# Altium integrated library AD DSP 32-Bit.IntLib: 40 symbols (part 4 of 6)
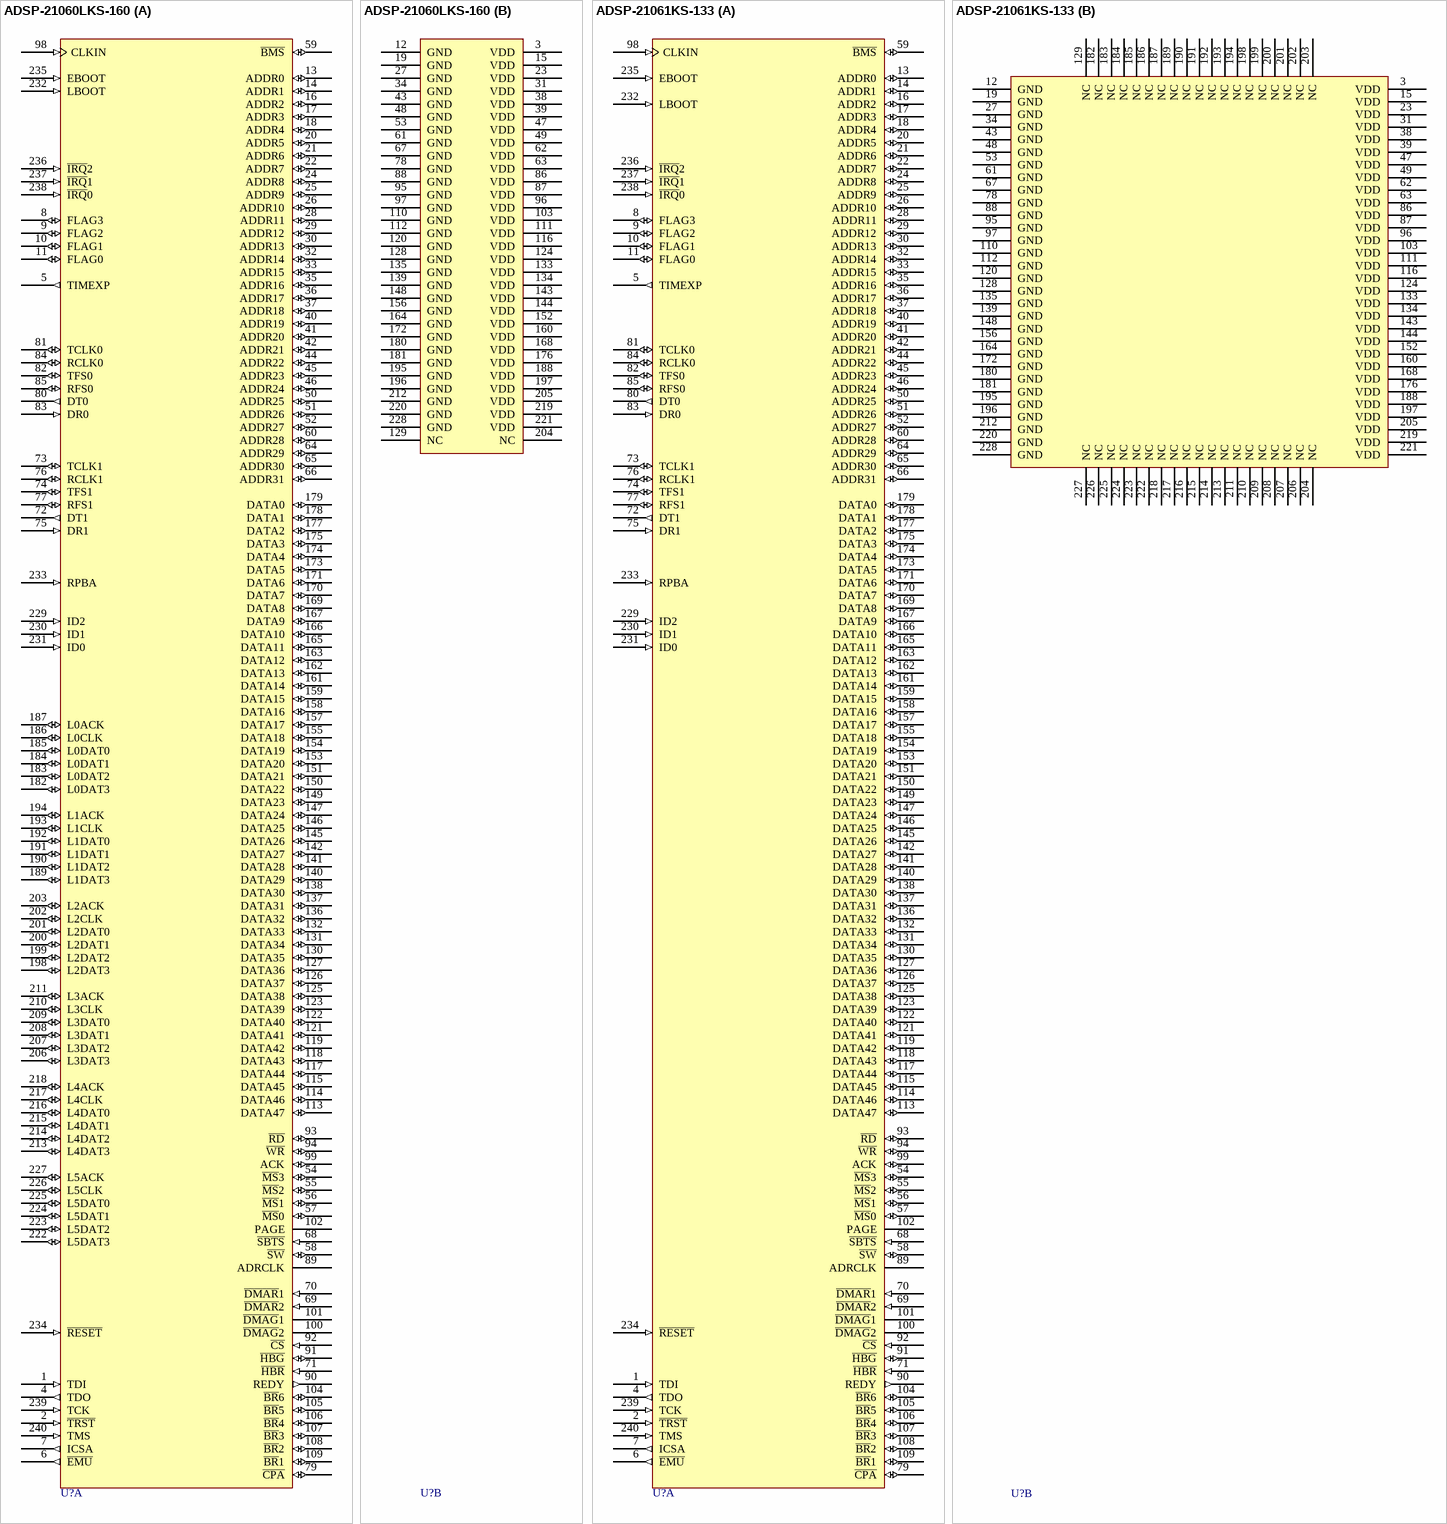
[diagram p45: symbols ADSP-21060LKS-160 to ADSP-21061KS-133]

## ADSP-21060LKS-160
designator U?
SHARC, 120 MFLOPS, 3.3V, DSP Microcomputer Floating Point; Published: 24-Aug-2001; LatestRevisionDate: 13-Apr-2006; LatestRevisionNote: IPC-7351 Footprint Added.; DatasheetVersion: 2000; PackageVersion: 2000; PackageReference: MQFP240-3.3V; Publisher: Altium Limited; PackageDescription: 240-Pin Shrink Quad Flat Pack 0.5 mm Pitch; ComponentLink1Description: Manufacturer Link; ComponentLink1URL: http://www.analog.com/
footprint MQFP240-3.3V_N (Shrink QFP, 240-Leads, Body 32x32mm, Pitch 0.5mm, IPC Medium Density)
footprint MQFP240-3.3V_L (Shrink QFP, 240-Leads, Body 32x32mm, Pitch 0.5mm, IPC High Density)
footprint MQFP240-3.3V_M (Shrink QFP, 240-Leads, Body 32x32mm, Pitch 0.5mm, IPC Low Density)
3D model 21060L-MQFP240 (240-Pin Shrink Quad Flat Pack 0.5 mm Pitch)
part A pins: 1 TDI (in), 2 ~{TRST} (in), 4 TDO (out), 5 TIMEXP (out), 6 ~{EMU} (out), 7 ICSA (out), 8 FLAG3 (io), 9 FLAG2 (io), 10 FLAG1 (io), 11 FLAG0 (io), 13 ADDR0 (io), 14 ADDR1 (io), 16 ADDR2 (io), 17 ADDR3 (io), 18 ADDR4 (io), 20 ADDR5 (io), 21 ADDR6 (io), 22 ADDR7 (io), 24 ADDR8 (io), 25 ADDR9 (io), 26 ADDR10 (io), 28 ADDR11 (io), 29 ADDR12 (io), 30 ADDR13 (io), 32 ADDR14 (io), 33 ADDR15 (io), 35 ADDR16 (io), 36 ADDR17 (io), 37 ADDR18 (io), 40 ADDR19 (io), 41 ADDR20 (io), 42 ADDR21 (io), 44 ADDR22 (io), 45 ADDR23 (io), 46 ADDR24 (io), 50 ADDR25 (io), 51 ADDR26 (io), 52 ADDR27 (io), 54 ~{MS}3 (io), 55 ~{MS}2 (io), 56 ~{MS}1 (io), 57 ~{MS}0 (io), 58 ~{SW} (io), 59 ~{BMS} (io), 60 ADDR28 (io), 64 ADDR29 (io), 65 ADDR30 (io), 66 ADDR31 (io), 68 ~{SBTS} (in), 69 ~{DMAR}2 (in), 70 ~{DMAR}1 (in), 71 ~{HBR} (in), 72 DT1 (out), 73 TCLK1 (io), 74 TFS1 (io), 75 DR1 (in), 76 RCLK1 (io), 77 RFS1 (io), 79 ~{CPA} (io), 80 DT0 (out), 81 TCLK0 (io), 82 TFS0 (io), 83 DR0 (in), 84 RCLK0 (io), 85 RFS0 (io), 89 ADRCLK (hiz), 90 REDY (out), 91 ~{HBG} (io), 92 ~{CS} (in), 93 ~{RD} (io), 94 ~{WR} (io), 98 CLKIN (in), 99 ACK (io), 100 ~{DMAG}2 (hiz), 101 ~{DMAG}1 (hiz), 102 PAGE (hiz), 104 ~{BR}6 (io), 105 ~{BR}5 (io), 106 ~{BR}4 (io), 107 ~{BR}3 (io), 108 ~{BR}2 (io), 109 ~{BR}1 (io), 113 DATA47 (io), 114 DATA46 (io), 115 DATA45 (io), 117 DATA44 (io), 118 DATA43 (io), 119 DATA42 (io), 121 DATA41 (io), 122 DATA40 (io), 123 DATA39 (io), 125 DATA38 (io), 126 DATA37 (io), 127 DATA36 (io), 130 DATA35 (io), 131 DATA34 (io), 132 DATA33 (io), 136 DATA32 (io), 137 DATA31 (io), 138 DATA30 (io), 140 DATA29 (io), 141 DATA28 (io), 142 DATA27 (io), 145 DATA26 (io), 146 DATA25 (io), 147 DATA24 (io), 149 DATA23 (io), 150 DATA22 (io), 151 DATA21 (io), 153 DATA20 (io), 154 DATA19 (io), 155 DATA18 (io), 157 DATA17 (io), 158 DATA16 (io), 159 DATA15 (io), 161 DATA14 (io), 162 DATA13 (io), 163 DATA12 (io), 165 DATA11 (io), 166 DATA10 (io), 167 DATA9 (io), 169 DATA8 (io), 170 DATA7 (io), 171 DATA6 (io), 173 DATA5 (io), 174 DATA4 (io), 175 DATA3 (io), 177 DATA2 (io), 178 DATA1 (io), 179 DATA0 (io), 182 L0DAT3 (io), 183 L0DAT2 (io), 184 L0DAT1 (io), 185 L0DAT0 (io), 186 L0CLK (io), 187 L0ACK (io), 189 L1DAT3 (io), 190 L1DAT2 (io), 191 L1DAT1 (io), 192 L1DAT0 (io), 193 L1CLK (io), 194 L1ACK (io), 198 L2DAT3 (io), 199 L2DAT2 (io), 200 L2DAT1 (io), 201 L2DAT0 (io), 202 L2CLK (io), 203 L2ACK (io), 206 L3DAT3 (io), 207 L3DAT2 (io), 208 L3DAT1 (io), 209 L3DAT0 (io), 210 L3CLK (io), 211 L3ACK (io), 213 L4DAT3 (io), 214 L4DAT2 (io), 215 L4DAT1 (io), 216 L4DAT0 (io), 217 L4CLK (io), 218 L4ACK (io), 222 L5DAT3 (io), 223 L5DAT2 (io), 224 L5DAT1 (io), 225 L5DAT0 (io), 226 L5CLK (io), 227 L5ACK (io), 229 ID2 (in), 230 ID1 (in), 231 ID0 (in), 232 LBOOT (in), 233 RPBA (in), 234 ~{RESET} (in), 235 EBOOT (in), 236 ~{IRQ}2 (in), 237 ~{IRQ}1 (in), 238 ~{IRQ}0 (in), 239 TCK (in), 240 TMS (in)
part B pins: 3 VDD (power), 12 GND (power), 15 VDD (power), 19 GND (power), 23 VDD (power), 27 GND (power), 31 VDD (power), 34 GND (power), 38 VDD (power), 39 VDD (power), 43 GND (power), 47 VDD (power), 48 GND (power), 49 VDD (power), 53 GND (power), 61 GND (power), 62 VDD (power), 63 VDD (power), 67 GND (power), 78 GND (power), 86 VDD (power), 87 VDD (power), 88 GND (power), 95 GND (power), 96 VDD (power), 97 GND (power), 103 VDD (power), 110 GND (power), 111 VDD (power), 112 GND (power), 116 VDD (power), 120 GND (power), 124 VDD (power), 128 GND (power), 129 NC, 133 VDD (power), 134 VDD (power), 135 GND (power), 139 GND (power), 143 VDD (power), 144 VDD (power), 148 GND (power), 152 VDD (power), 156 GND (power), 160 VDD (power), 164 GND (power), 168 VDD (power), 172 GND (power), 176 VDD (power), 180 GND (power), 181 GND (power), 188 VDD (power), 195 GND (power), 196 GND (power), 197 VDD (power), 204 NC, 205 VDD (power), 212 GND (power), 219 VDD (power), 220 GND (power), 221 VDD (power), 228 GND (power)

## ADSP-21061KS-133
designator U?
SHARC, 33MHZ, 150 MFLOPS, 5V, Floating Point; PackageFeature: Thermally Enhanced MQFP includes heat slug on its top surface; Published: 24-Aug-2001; LatestRevisionDate: 13-Apr-2006; LatestRevisionNote: IPC-7351 Footprint Added.; DatasheetVersion: 2000; PackageVersion: 2000; PackageReference: MQFP240-5V; Publisher: Altium Limited; PackageDescription: 240-Pin Shrink Quad Flat Pack 0.5 mm Pitch; ComponentLink1Description: Manufacturer Link; ComponentLink1URL: http://www.analog.com/
footprint MQFP240-5V_N (Shrink QFP, 240-Leads, Body 32x32mm, Pitch 0.5mm, IPC Medium Density)
footprint MQFP240-5V_L (Shrink QFP, 240-Leads, Body 32x32mm, Pitch 0.5mm, IPC High Density)
footprint MQFP240-5V_M (Shrink QFP, 240-Leads, Body 32x32mm, Pitch 0.5mm, IPC Low Density)
3D model 21061-MQFP240 (240-Pin Shrink Quad Flat Pack 0.5 mm Pitch)
part A pins: 1 TDI (in), 2 ~{TRST} (in), 4 TDO (out), 5 TIMEXP (out), 6 ~{EMU} (out), 7 ICSA (out), 8 FLAG3 (io), 9 FLAG2 (io), 10 FLAG1 (io), 11 FLAG0 (io), 13 ADDR0 (io), 14 ADDR1 (io), 16 ADDR2 (io), 17 ADDR3 (io), 18 ADDR4 (io), 20 ADDR5 (io), 21 ADDR6 (io), 22 ADDR7 (io), 24 ADDR8 (io), 25 ADDR9 (io), 26 ADDR10 (io), 28 ADDR11 (io), 29 ADDR12 (io), 30 ADDR13 (io), 32 ADDR14 (io), 33 ADDR15 (io), 35 ADDR16 (io), 36 ADDR17 (io), 37 ADDR18 (io), 40 ADDR19 (io), 41 ADDR20 (io), 42 ADDR21 (io), 44 ADDR22 (io), 45 ADDR23 (io), 46 ADDR24 (io), 50 ADDR25 (io), 51 ADDR26 (io), 52 ADDR27 (io), 54 ~{MS}3 (io), 55 ~{MS}2 (io), 56 ~{MS}1 (io), 57 ~{MS}0 (io), 58 ~{SW} (io), 59 ~{BMS} (io), 60 ADDR28 (io), 64 ADDR29 (io), 65 ADDR30 (io), 66 ADDR31 (io), 68 ~{SBTS} (in), 69 ~{DMAR}2 (in), 70 ~{DMAR}1 (in), 71 ~{HBR} (in), 72 DT1 (out), 73 TCLK1 (io), 74 TFS1 (io), 75 DR1 (in), 76 RCLK1 (io), 77 RFS1 (io), 79 ~{CPA} (io), 80 DT0 (out), 81 TCLK0 (io), 82 TFS0 (io), 83 DR0 (in), 84 RCLK0 (io), 85 RFS0 (io), 89 ADRCLK (hiz), 90 REDY (out), 91 ~{HBG} (io), 92 ~{CS} (in), 93 ~{RD} (io), 94 ~{WR} (io), 98 CLKIN (in), 99 ACK (io), 100 ~{DMAG}2 (hiz), 101 ~{DMAG}1 (hiz), 102 PAGE (hiz), 104 ~{BR}6 (io), 105 ~{BR}5 (io), 106 ~{BR}4 (io), 107 ~{BR}3 (io), 108 ~{BR}2 (io), 109 ~{BR}1 (io), 113 DATA47 (io), 114 DATA46 (io), 115 DATA45 (io), 117 DATA44 (io), 118 DATA43 (io), 119 DATA42 (io), 121 DATA41 (io), 122 DATA40 (io), 123 DATA39 (io), 125 DATA38 (io), 126 DATA37 (io), 127 DATA36 (io), 130 DATA35 (io), 131 DATA34 (io), 132 DATA33 (io), 136 DATA32 (io), 137 DATA31 (io), 138 DATA30 (io), 140 DATA29 (io), 141 DATA28 (io), 142 DATA27 (io), 145 DATA26 (io), 146 DATA25 (io), 147 DATA24 (io), 149 DATA23 (io), 150 DATA22 (io), 151 DATA21 (io), 153 DATA20 (io), 154 DATA19 (io), 155 DATA18 (io), 157 DATA17 (io), 158 DATA16 (io), 159 DATA15 (io), 161 DATA14 (io), 162 DATA13 (io), 163 DATA12 (io), 165 DATA11 (io), 166 DATA10 (io), 167 DATA9 (io), 169 DATA8 (io), 170 DATA7 (io), 171 DATA6 (io), 173 DATA5 (io), 174 DATA4 (io), 175 DATA3 (io), 177 DATA2 (io), 178 DATA1 (io), 179 DATA0 (io), 229 ID2 (in), 230 ID1 (in), 231 ID0 (in), 232 LBOOT (in), 233 RPBA (in), 234 ~{RESET} (in), 235 EBOOT (in), 236 ~{IRQ}2 (in), 237 ~{IRQ}1 (in), 238 ~{IRQ}0 (in), 239 TCK (in), 240 TMS (in)
part B pins: 3 VDD (power), 12 GND (power), 15 VDD (power), 19 GND (power), 23 VDD (power), 27 GND (power), 31 VDD (power), 34 GND (power), 38 VDD (power), 39 VDD (power), 43 GND (power), 47 VDD (power), 48 GND (power), 49 VDD (power), 53 GND (power), 61 GND (power), 62 VDD (power), 63 VDD (power), 67 GND (power), 78 GND (power), 86 VDD (power), 87 VDD (power), 88 GND (power), 95 GND (power), 96 VDD (power), 97 GND (power), 103 VDD (power), 110 GND (power), 111 VDD (power), 112 GND (power), 116 VDD (power), 120 GND (power), 124 VDD (power), 128 GND (power), 129 NC, 133 VDD (power), 134 VDD (power), 135 GND (power), 139 GND (power), 143 VDD (power), 144 VDD (power), 148 GND (power), 152 VDD (power), 156 GND (power), 160 VDD (power), 164 GND (power), 168 VDD (power), 172 GND (power), 176 VDD (power), 180 GND (power), 181 GND (power), 182 NC, 183 NC, 184 NC, 185 NC, 186 NC, 187 NC, 188 VDD (power), 189 NC, 190 NC, 191 NC, 192 NC, 193 NC, 194 NC, 195 GND (power), 196 GND (power), 197 VDD (power), 198 NC, 199 NC, 200 NC, 201 NC, 202 NC, 203 NC, 204 NC, 205 VDD (power), 206 NC, 207 NC, 208 NC, 209 NC, 210 NC, 211 NC, 212 GND (power), 213 NC, 214 NC, 215 NC, 216 NC, 217 NC, 218 NC, 219 VDD (power), 220 GND (power), 221 VDD (power), 222 NC, 223 NC, 224 NC, 225 NC, 226 NC, 227 NC, 228 GND (power)

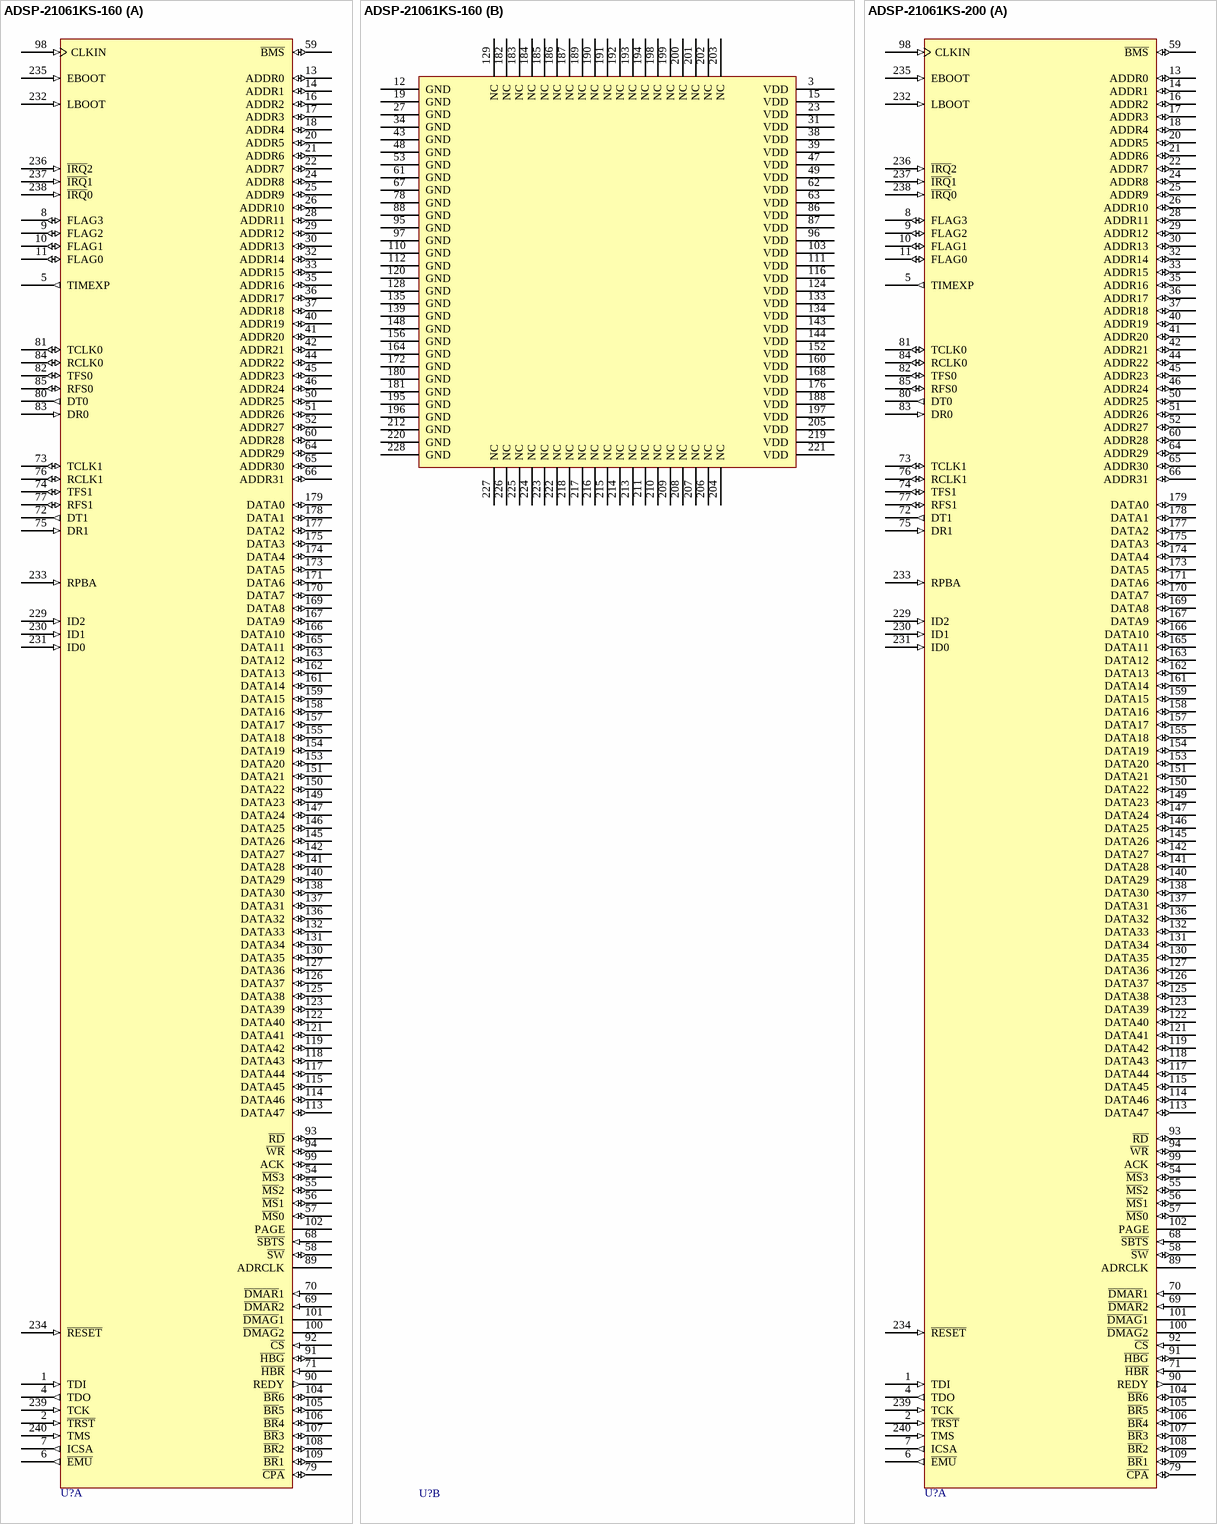
[diagram p28: symbols ADSP-21061KS-160 to ADSP-21061KS-200]

## ADSP-21061KS-160
designator U?
SHARC, 40MHZ, 150 MFLOPS, 5V, Floating Point; PackageFeature: Thermally Enhanced MQFP includes heat slug on its top surface; Published: 24-Aug-2001; LatestRevisionDate: 13-Apr-2006; LatestRevisionNote: IPC-7351 Footprint Added.; DatasheetVersion: 2000; PackageVersion: 2000; PackageReference: MQFP240-5V; Publisher: Altium Limited; PackageDescription: 240-Pin Shrink Quad Flat Pack 0.5 mm Pitch; ComponentLink1Description: Manufacturer Link; ComponentLink1URL: http://www.analog.com/
footprint MQFP240-5V_N (Shrink QFP, 240-Leads, Body 32x32mm, Pitch 0.5mm, IPC Medium Density)
footprint MQFP240-5V_L (Shrink QFP, 240-Leads, Body 32x32mm, Pitch 0.5mm, IPC High Density)
footprint MQFP240-5V_M (Shrink QFP, 240-Leads, Body 32x32mm, Pitch 0.5mm, IPC Low Density)
3D model 21061-MQFP240 (240-Pin Shrink Quad Flat Pack 0.5 mm Pitch)
part A pins: 1 TDI (in), 2 ~{TRST} (in), 4 TDO (out), 5 TIMEXP (out), 6 ~{EMU} (out), 7 ICSA (out), 8 FLAG3 (io), 9 FLAG2 (io), 10 FLAG1 (io), 11 FLAG0 (io), 13 ADDR0 (io), 14 ADDR1 (io), 16 ADDR2 (io), 17 ADDR3 (io), 18 ADDR4 (io), 20 ADDR5 (io), 21 ADDR6 (io), 22 ADDR7 (io), 24 ADDR8 (io), 25 ADDR9 (io), 26 ADDR10 (io), 28 ADDR11 (io), 29 ADDR12 (io), 30 ADDR13 (io), 32 ADDR14 (io), 33 ADDR15 (io), 35 ADDR16 (io), 36 ADDR17 (io), 37 ADDR18 (io), 40 ADDR19 (io), 41 ADDR20 (io), 42 ADDR21 (io), 44 ADDR22 (io), 45 ADDR23 (io), 46 ADDR24 (io), 50 ADDR25 (io), 51 ADDR26 (io), 52 ADDR27 (io), 54 ~{MS}3 (io), 55 ~{MS}2 (io), 56 ~{MS}1 (io), 57 ~{MS}0 (io), 58 ~{SW} (io), 59 ~{BMS} (io), 60 ADDR28 (io), 64 ADDR29 (io), 65 ADDR30 (io), 66 ADDR31 (io), 68 ~{SBTS} (in), 69 ~{DMAR}2 (in), 70 ~{DMAR}1 (in), 71 ~{HBR} (in), 72 DT1 (out), 73 TCLK1 (io), 74 TFS1 (io), 75 DR1 (in), 76 RCLK1 (io), 77 RFS1 (io), 79 ~{CPA} (io), 80 DT0 (out), 81 TCLK0 (io), 82 TFS0 (io), 83 DR0 (in), 84 RCLK0 (io), 85 RFS0 (io), 89 ADRCLK (hiz), 90 REDY (out), 91 ~{HBG} (io), 92 ~{CS} (in), 93 ~{RD} (io), 94 ~{WR} (io), 98 CLKIN (in), 99 ACK (io), 100 ~{DMAG}2 (hiz), 101 ~{DMAG}1 (hiz), 102 PAGE (hiz), 104 ~{BR}6 (io), 105 ~{BR}5 (io), 106 ~{BR}4 (io), 107 ~{BR}3 (io), 108 ~{BR}2 (io), 109 ~{BR}1 (io), 113 DATA47 (io), 114 DATA46 (io), 115 DATA45 (io), 117 DATA44 (io), 118 DATA43 (io), 119 DATA42 (io), 121 DATA41 (io), 122 DATA40 (io), 123 DATA39 (io), 125 DATA38 (io), 126 DATA37 (io), 127 DATA36 (io), 130 DATA35 (io), 131 DATA34 (io), 132 DATA33 (io), 136 DATA32 (io), 137 DATA31 (io), 138 DATA30 (io), 140 DATA29 (io), 141 DATA28 (io), 142 DATA27 (io), 145 DATA26 (io), 146 DATA25 (io), 147 DATA24 (io), 149 DATA23 (io), 150 DATA22 (io), 151 DATA21 (io), 153 DATA20 (io), 154 DATA19 (io), 155 DATA18 (io), 157 DATA17 (io), 158 DATA16 (io), 159 DATA15 (io), 161 DATA14 (io), 162 DATA13 (io), 163 DATA12 (io), 165 DATA11 (io), 166 DATA10 (io), 167 DATA9 (io), 169 DATA8 (io), 170 DATA7 (io), 171 DATA6 (io), 173 DATA5 (io), 174 DATA4 (io), 175 DATA3 (io), 177 DATA2 (io), 178 DATA1 (io), 179 DATA0 (io), 229 ID2 (in), 230 ID1 (in), 231 ID0 (in), 232 LBOOT (in), 233 RPBA (in), 234 ~{RESET} (in), 235 EBOOT (in), 236 ~{IRQ}2 (in), 237 ~{IRQ}1 (in), 238 ~{IRQ}0 (in), 239 TCK (in), 240 TMS (in)
part B pins: 3 VDD (power), 12 GND (power), 15 VDD (power), 19 GND (power), 23 VDD (power), 27 GND (power), 31 VDD (power), 34 GND (power), 38 VDD (power), 39 VDD (power), 43 GND (power), 47 VDD (power), 48 GND (power), 49 VDD (power), 53 GND (power), 61 GND (power), 62 VDD (power), 63 VDD (power), 67 GND (power), 78 GND (power), 86 VDD (power), 87 VDD (power), 88 GND (power), 95 GND (power), 96 VDD (power), 97 GND (power), 103 VDD (power), 110 GND (power), 111 VDD (power), 112 GND (power), 116 VDD (power), 120 GND (power), 124 VDD (power), 128 GND (power), 129 NC, 133 VDD (power), 134 VDD (power), 135 GND (power), 139 GND (power), 143 VDD (power), 144 VDD (power), 148 GND (power), 152 VDD (power), 156 GND (power), 160 VDD (power), 164 GND (power), 168 VDD (power), 172 GND (power), 176 VDD (power), 180 GND (power), 181 GND (power), 182 NC, 183 NC, 184 NC, 185 NC, 186 NC, 187 NC, 188 VDD (power), 189 NC, 190 NC, 191 NC, 192 NC, 193 NC, 194 NC, 195 GND (power), 196 GND (power), 197 VDD (power), 198 NC, 199 NC, 200 NC, 201 NC, 202 NC, 203 NC, 204 NC, 205 VDD (power), 206 NC, 207 NC, 208 NC, 209 NC, 210 NC, 211 NC, 212 GND (power), 213 NC, 214 NC, 215 NC, 216 NC, 217 NC, 218 NC, 219 VDD (power), 220 GND (power), 221 VDD (power), 222 NC, 223 NC, 224 NC, 225 NC, 226 NC, 227 NC, 228 GND (power)

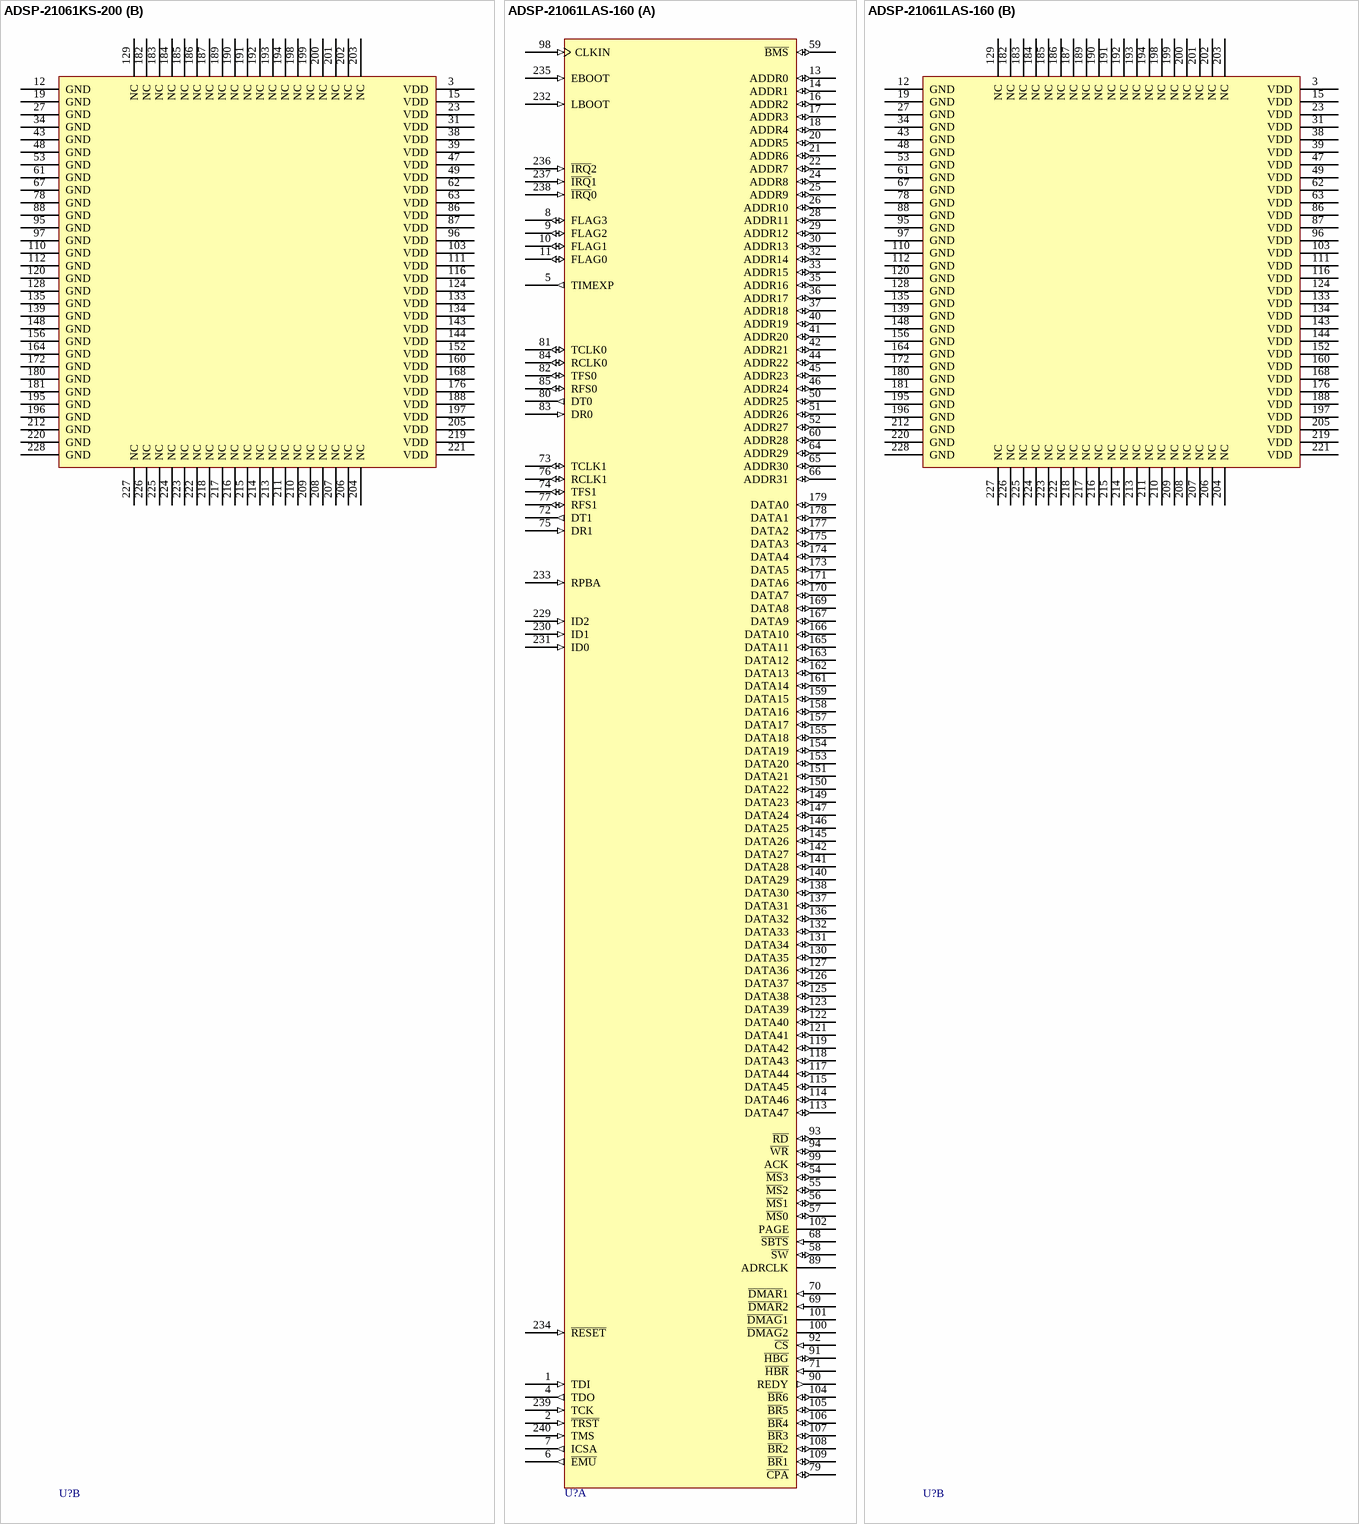
[diagram p29: symbols ADSP-21061KS-200 to ADSP-21061LAS-160]

## ADSP-21061KS-200
designator U?
SHARC, 50MHZ, 150 MFLOPS, 5V, Floating Point; PackageFeature: Thermally Enhanced MQFP includes heat slug on its top surface; Published: 24-Aug-2001; LatestRevisionDate: 13-Apr-2006; LatestRevisionNote: IPC-7351 Footprint Added.; DatasheetVersion: 2000; PackageVersion: 2000; PackageReference: MQFP240-5V; Publisher: Altium Limited; PackageDescription: 240-Pin Shrink Quad Flat Pack 0.5 mm Pitch; ComponentLink1Description: Manufacturer Link; ComponentLink1URL: http://www.analog.com/
footprint MQFP240-5V_N (Shrink QFP, 240-Leads, Body 32x32mm, Pitch 0.5mm, IPC Medium Density)
footprint MQFP240-5V_L (Shrink QFP, 240-Leads, Body 32x32mm, Pitch 0.5mm, IPC High Density)
footprint MQFP240-5V_M (Shrink QFP, 240-Leads, Body 32x32mm, Pitch 0.5mm, IPC Low Density)
3D model 21061-MQFP240 (240-Pin Shrink Quad Flat Pack 0.5 mm Pitch)
part A pins: 1 TDI (in), 2 ~{TRST} (in), 4 TDO (out), 5 TIMEXP (out), 6 ~{EMU} (out), 7 ICSA (out), 8 FLAG3 (io), 9 FLAG2 (io), 10 FLAG1 (io), 11 FLAG0 (io), 13 ADDR0 (io), 14 ADDR1 (io), 16 ADDR2 (io), 17 ADDR3 (io), 18 ADDR4 (io), 20 ADDR5 (io), 21 ADDR6 (io), 22 ADDR7 (io), 24 ADDR8 (io), 25 ADDR9 (io), 26 ADDR10 (io), 28 ADDR11 (io), 29 ADDR12 (io), 30 ADDR13 (io), 32 ADDR14 (io), 33 ADDR15 (io), 35 ADDR16 (io), 36 ADDR17 (io), 37 ADDR18 (io), 40 ADDR19 (io), 41 ADDR20 (io), 42 ADDR21 (io), 44 ADDR22 (io), 45 ADDR23 (io), 46 ADDR24 (io), 50 ADDR25 (io), 51 ADDR26 (io), 52 ADDR27 (io), 54 ~{MS}3 (io), 55 ~{MS}2 (io), 56 ~{MS}1 (io), 57 ~{MS}0 (io), 58 ~{SW} (io), 59 ~{BMS} (io), 60 ADDR28 (io), 64 ADDR29 (io), 65 ADDR30 (io), 66 ADDR31 (io), 68 ~{SBTS} (in), 69 ~{DMAR}2 (in), 70 ~{DMAR}1 (in), 71 ~{HBR} (in), 72 DT1 (out), 73 TCLK1 (io), 74 TFS1 (io), 75 DR1 (in), 76 RCLK1 (io), 77 RFS1 (io), 79 ~{CPA} (io), 80 DT0 (out), 81 TCLK0 (io), 82 TFS0 (io), 83 DR0 (in), 84 RCLK0 (io), 85 RFS0 (io), 89 ADRCLK (hiz), 90 REDY (out), 91 ~{HBG} (io), 92 ~{CS} (in), 93 ~{RD} (io), 94 ~{WR} (io), 98 CLKIN (in), 99 ACK (io), 100 ~{DMAG}2 (hiz), 101 ~{DMAG}1 (hiz), 102 PAGE (hiz), 104 ~{BR}6 (io), 105 ~{BR}5 (io), 106 ~{BR}4 (io), 107 ~{BR}3 (io), 108 ~{BR}2 (io), 109 ~{BR}1 (io), 113 DATA47 (io), 114 DATA46 (io), 115 DATA45 (io), 117 DATA44 (io), 118 DATA43 (io), 119 DATA42 (io), 121 DATA41 (io), 122 DATA40 (io), 123 DATA39 (io), 125 DATA38 (io), 126 DATA37 (io), 127 DATA36 (io), 130 DATA35 (io), 131 DATA34 (io), 132 DATA33 (io), 136 DATA32 (io), 137 DATA31 (io), 138 DATA30 (io), 140 DATA29 (io), 141 DATA28 (io), 142 DATA27 (io), 145 DATA26 (io), 146 DATA25 (io), 147 DATA24 (io), 149 DATA23 (io), 150 DATA22 (io), 151 DATA21 (io), 153 DATA20 (io), 154 DATA19 (io), 155 DATA18 (io), 157 DATA17 (io), 158 DATA16 (io), 159 DATA15 (io), 161 DATA14 (io), 162 DATA13 (io), 163 DATA12 (io), 165 DATA11 (io), 166 DATA10 (io), 167 DATA9 (io), 169 DATA8 (io), 170 DATA7 (io), 171 DATA6 (io), 173 DATA5 (io), 174 DATA4 (io), 175 DATA3 (io), 177 DATA2 (io), 178 DATA1 (io), 179 DATA0 (io), 229 ID2 (in), 230 ID1 (in), 231 ID0 (in), 232 LBOOT (in), 233 RPBA (in), 234 ~{RESET} (in), 235 EBOOT (in), 236 ~{IRQ}2 (in), 237 ~{IRQ}1 (in), 238 ~{IRQ}0 (in), 239 TCK (in), 240 TMS (in)
part B pins: 3 VDD (power), 12 GND (power), 15 VDD (power), 19 GND (power), 23 VDD (power), 27 GND (power), 31 VDD (power), 34 GND (power), 38 VDD (power), 39 VDD (power), 43 GND (power), 47 VDD (power), 48 GND (power), 49 VDD (power), 53 GND (power), 61 GND (power), 62 VDD (power), 63 VDD (power), 67 GND (power), 78 GND (power), 86 VDD (power), 87 VDD (power), 88 GND (power), 95 GND (power), 96 VDD (power), 97 GND (power), 103 VDD (power), 110 GND (power), 111 VDD (power), 112 GND (power), 116 VDD (power), 120 GND (power), 124 VDD (power), 128 GND (power), 129 NC, 133 VDD (power), 134 VDD (power), 135 GND (power), 139 GND (power), 143 VDD (power), 144 VDD (power), 148 GND (power), 152 VDD (power), 156 GND (power), 160 VDD (power), 164 GND (power), 168 VDD (power), 172 GND (power), 176 VDD (power), 180 GND (power), 181 GND (power), 182 NC, 183 NC, 184 NC, 185 NC, 186 NC, 187 NC, 188 VDD (power), 189 NC, 190 NC, 191 NC, 192 NC, 193 NC, 194 NC, 195 GND (power), 196 GND (power), 197 VDD (power), 198 NC, 199 NC, 200 NC, 201 NC, 202 NC, 203 NC, 204 NC, 205 VDD (power), 206 NC, 207 NC, 208 NC, 209 NC, 210 NC, 211 NC, 212 GND (power), 213 NC, 214 NC, 215 NC, 216 NC, 217 NC, 218 NC, 219 VDD (power), 220 GND (power), 221 VDD (power), 222 NC, 223 NC, 224 NC, 225 NC, 226 NC, 227 NC, 228 GND (power)

## ADSP-21061LAS-160
designator U?
SHARC, 40MHZ, 150 MFLOPS, 3.3V, Floating Point; Published: 24-Aug-2001; LatestRevisionDate: 13-Apr-2006; LatestRevisionNote: IPC-7351 Footprint Added.; DatasheetVersion: 2000; PackageVersion: 2000; PackageReference: MQFP240-3.3V; Publisher: Altium Limited; PackageDescription: 240-Pin Shrink Quad Flat Pack 0.5 mm Pitch; ComponentLink1Description: Manufacturer Link; ComponentLink1URL: http://www.analog.com/
footprint MQFP240-3.3V_N (Shrink QFP, 240-Leads, Body 32x32mm, Pitch 0.5mm, IPC Medium Density)
footprint MQFP240-3.3V_L (Shrink QFP, 240-Leads, Body 32x32mm, Pitch 0.5mm, IPC High Density)
footprint MQFP240-3.3V_M (Shrink QFP, 240-Leads, Body 32x32mm, Pitch 0.5mm, IPC Low Density)
3D model 21061L-MQFP240 (240-Pin Shrink Quad Flat Pack 0.5 mm Pitch)
part A pins: 1 TDI (in), 2 ~{TRST} (in), 4 TDO (out), 5 TIMEXP (out), 6 ~{EMU} (out), 7 ICSA (out), 8 FLAG3 (io), 9 FLAG2 (io), 10 FLAG1 (io), 11 FLAG0 (io), 13 ADDR0 (io), 14 ADDR1 (io), 16 ADDR2 (io), 17 ADDR3 (io), 18 ADDR4 (io), 20 ADDR5 (io), 21 ADDR6 (io), 22 ADDR7 (io), 24 ADDR8 (io), 25 ADDR9 (io), 26 ADDR10 (io), 28 ADDR11 (io), 29 ADDR12 (io), 30 ADDR13 (io), 32 ADDR14 (io), 33 ADDR15 (io), 35 ADDR16 (io), 36 ADDR17 (io), 37 ADDR18 (io), 40 ADDR19 (io), 41 ADDR20 (io), 42 ADDR21 (io), 44 ADDR22 (io), 45 ADDR23 (io), 46 ADDR24 (io), 50 ADDR25 (io), 51 ADDR26 (io), 52 ADDR27 (io), 54 ~{MS}3 (io), 55 ~{MS}2 (io), 56 ~{MS}1 (io), 57 ~{MS}0 (io), 58 ~{SW} (io), 59 ~{BMS} (io), 60 ADDR28 (io), 64 ADDR29 (io), 65 ADDR30 (io), 66 ADDR31 (io), 68 ~{SBTS} (in), 69 ~{DMAR}2 (in), 70 ~{DMAR}1 (in), 71 ~{HBR} (in), 72 DT1 (out), 73 TCLK1 (io), 74 TFS1 (io), 75 DR1 (in), 76 RCLK1 (io), 77 RFS1 (io), 79 ~{CPA} (io), 80 DT0 (out), 81 TCLK0 (io), 82 TFS0 (io), 83 DR0 (in), 84 RCLK0 (io), 85 RFS0 (io), 89 ADRCLK (hiz), 90 REDY (out), 91 ~{HBG} (io), 92 ~{CS} (in), 93 ~{RD} (io), 94 ~{WR} (io), 98 CLKIN (in), 99 ACK (io), 100 ~{DMAG}2 (hiz), 101 ~{DMAG}1 (hiz), 102 PAGE (hiz), 104 ~{BR}6 (io), 105 ~{BR}5 (io), 106 ~{BR}4 (io), 107 ~{BR}3 (io), 108 ~{BR}2 (io), 109 ~{BR}1 (io), 113 DATA47 (io), 114 DATA46 (io), 115 DATA45 (io), 117 DATA44 (io), 118 DATA43 (io), 119 DATA42 (io), 121 DATA41 (io), 122 DATA40 (io), 123 DATA39 (io), 125 DATA38 (io), 126 DATA37 (io), 127 DATA36 (io), 130 DATA35 (io), 131 DATA34 (io), 132 DATA33 (io), 136 DATA32 (io), 137 DATA31 (io), 138 DATA30 (io), 140 DATA29 (io), 141 DATA28 (io), 142 DATA27 (io), 145 DATA26 (io), 146 DATA25 (io), 147 DATA24 (io), 149 DATA23 (io), 150 DATA22 (io), 151 DATA21 (io), 153 DATA20 (io), 154 DATA19 (io), 155 DATA18 (io), 157 DATA17 (io), 158 DATA16 (io), 159 DATA15 (io), 161 DATA14 (io), 162 DATA13 (io), 163 DATA12 (io), 165 DATA11 (io), 166 DATA10 (io), 167 DATA9 (io), 169 DATA8 (io), 170 DATA7 (io), 171 DATA6 (io), 173 DATA5 (io), 174 DATA4 (io), 175 DATA3 (io), 177 DATA2 (io), 178 DATA1 (io), 179 DATA0 (io), 229 ID2 (in), 230 ID1 (in), 231 ID0 (in), 232 LBOOT (in), 233 RPBA (in), 234 ~{RESET} (in), 235 EBOOT (in), 236 ~{IRQ}2 (in), 237 ~{IRQ}1 (in), 238 ~{IRQ}0 (in), 239 TCK (in), 240 TMS (in)
part B pins: 3 VDD (power), 12 GND (power), 15 VDD (power), 19 GND (power), 23 VDD (power), 27 GND (power), 31 VDD (power), 34 GND (power), 38 VDD (power), 39 VDD (power), 43 GND (power), 47 VDD (power), 48 GND (power), 49 VDD (power), 53 GND (power), 61 GND (power), 62 VDD (power), 63 VDD (power), 67 GND (power), 78 GND (power), 86 VDD (power), 87 VDD (power), 88 GND (power), 95 GND (power), 96 VDD (power), 97 GND (power), 103 VDD (power), 110 GND (power), 111 VDD (power), 112 GND (power), 116 VDD (power), 120 GND (power), 124 VDD (power), 128 GND (power), 129 NC, 133 VDD (power), 134 VDD (power), 135 GND (power), 139 GND (power), 143 VDD (power), 144 VDD (power), 148 GND (power), 152 VDD (power), 156 GND (power), 160 VDD (power), 164 GND (power), 168 VDD (power), 172 GND (power), 176 VDD (power), 180 GND (power), 181 GND (power), 182 NC, 183 NC, 184 NC, 185 NC, 186 NC, 187 NC, 188 VDD (power), 189 NC, 190 NC, 191 NC, 192 NC, 193 NC, 194 NC, 195 GND (power), 196 GND (power), 197 VDD (power), 198 NC, 199 NC, 200 NC, 201 NC, 202 NC, 203 NC, 204 NC, 205 VDD (power), 206 NC, 207 NC, 208 NC, 209 NC, 210 NC, 211 NC, 212 GND (power), 213 NC, 214 NC, 215 NC, 216 NC, 217 NC, 218 NC, 219 VDD (power), 220 GND (power), 221 VDD (power), 222 NC, 223 NC, 224 NC, 225 NC, 226 NC, 227 NC, 228 GND (power)

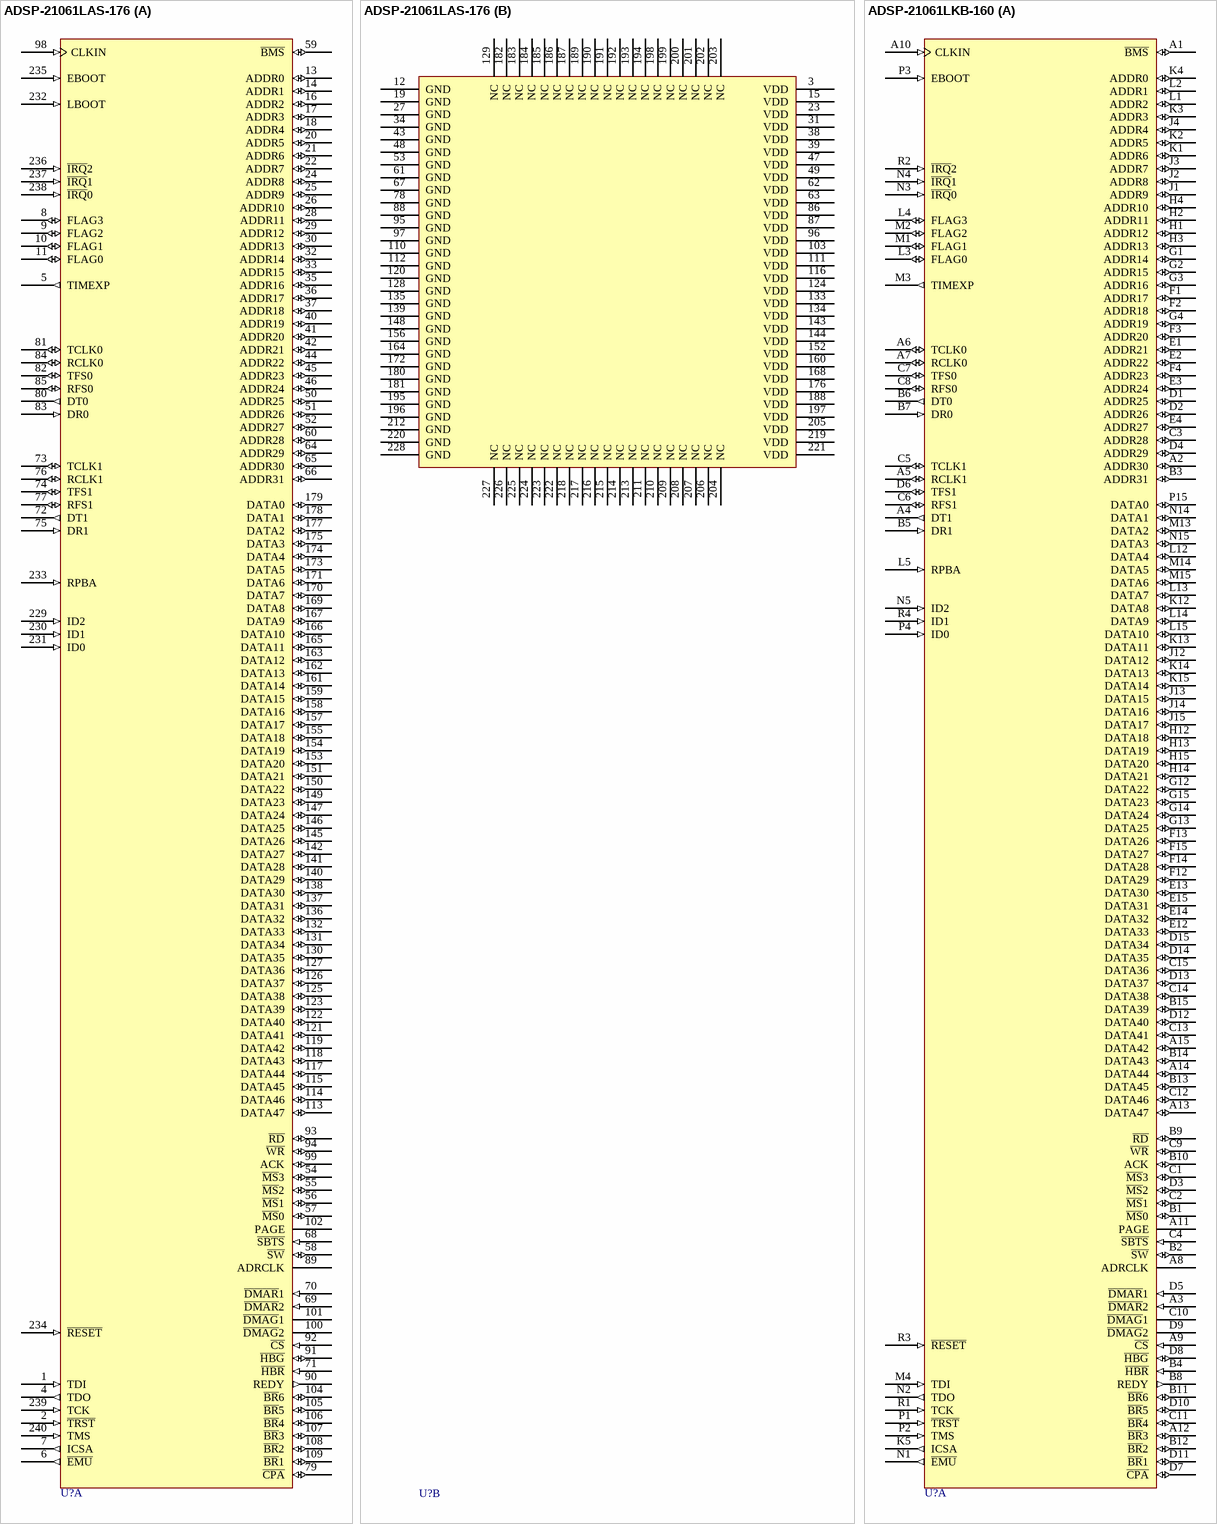
[diagram p30: symbols ADSP-21061LAS-176 to ADSP-21061LKB-160]

## ADSP-21061LAS-176
designator U?
SHARC, 44MHZ, 150 MFLOPS, 3.3V, Floating Point; Published: 24-Aug-2001; LatestRevisionDate: 13-Apr-2006; LatestRevisionNote: IPC-7351 Footprint Added.; DatasheetVersion: 2000; PackageVersion: 2000; PackageReference: MQFP240-3.3V; Publisher: Altium Limited; PackageDescription: 240-Pin Shrink Quad Flat Pack 0.5 mm Pitch; ComponentLink1Description: Manufacturer Link; ComponentLink1URL: http://www.analog.com/
footprint MQFP240-3.3V_N (Shrink QFP, 240-Leads, Body 32x32mm, Pitch 0.5mm, IPC Medium Density)
footprint MQFP240-3.3V_L (Shrink QFP, 240-Leads, Body 32x32mm, Pitch 0.5mm, IPC High Density)
footprint MQFP240-3.3V_M (Shrink QFP, 240-Leads, Body 32x32mm, Pitch 0.5mm, IPC Low Density)
3D model 21061L-MQFP240 (240-Pin Shrink Quad Flat Pack 0.5 mm Pitch)
part A pins: 1 TDI (in), 2 ~{TRST} (in), 4 TDO (out), 5 TIMEXP (out), 6 ~{EMU} (out), 7 ICSA (out), 8 FLAG3 (io), 9 FLAG2 (io), 10 FLAG1 (io), 11 FLAG0 (io), 13 ADDR0 (io), 14 ADDR1 (io), 16 ADDR2 (io), 17 ADDR3 (io), 18 ADDR4 (io), 20 ADDR5 (io), 21 ADDR6 (io), 22 ADDR7 (io), 24 ADDR8 (io), 25 ADDR9 (io), 26 ADDR10 (io), 28 ADDR11 (io), 29 ADDR12 (io), 30 ADDR13 (io), 32 ADDR14 (io), 33 ADDR15 (io), 35 ADDR16 (io), 36 ADDR17 (io), 37 ADDR18 (io), 40 ADDR19 (io), 41 ADDR20 (io), 42 ADDR21 (io), 44 ADDR22 (io), 45 ADDR23 (io), 46 ADDR24 (io), 50 ADDR25 (io), 51 ADDR26 (io), 52 ADDR27 (io), 54 ~{MS}3 (io), 55 ~{MS}2 (io), 56 ~{MS}1 (io), 57 ~{MS}0 (io), 58 ~{SW} (io), 59 ~{BMS} (io), 60 ADDR28 (io), 64 ADDR29 (io), 65 ADDR30 (io), 66 ADDR31 (io), 68 ~{SBTS} (in), 69 ~{DMAR}2 (in), 70 ~{DMAR}1 (in), 71 ~{HBR} (in), 72 DT1 (out), 73 TCLK1 (io), 74 TFS1 (io), 75 DR1 (in), 76 RCLK1 (io), 77 RFS1 (io), 79 ~{CPA} (io), 80 DT0 (out), 81 TCLK0 (io), 82 TFS0 (io), 83 DR0 (in), 84 RCLK0 (io), 85 RFS0 (io), 89 ADRCLK (hiz), 90 REDY (out), 91 ~{HBG} (io), 92 ~{CS} (in), 93 ~{RD} (io), 94 ~{WR} (io), 98 CLKIN (in), 99 ACK (io), 100 ~{DMAG}2 (hiz), 101 ~{DMAG}1 (hiz), 102 PAGE (hiz), 104 ~{BR}6 (io), 105 ~{BR}5 (io), 106 ~{BR}4 (io), 107 ~{BR}3 (io), 108 ~{BR}2 (io), 109 ~{BR}1 (io), 113 DATA47 (io), 114 DATA46 (io), 115 DATA45 (io), 117 DATA44 (io), 118 DATA43 (io), 119 DATA42 (io), 121 DATA41 (io), 122 DATA40 (io), 123 DATA39 (io), 125 DATA38 (io), 126 DATA37 (io), 127 DATA36 (io), 130 DATA35 (io), 131 DATA34 (io), 132 DATA33 (io), 136 DATA32 (io), 137 DATA31 (io), 138 DATA30 (io), 140 DATA29 (io), 141 DATA28 (io), 142 DATA27 (io), 145 DATA26 (io), 146 DATA25 (io), 147 DATA24 (io), 149 DATA23 (io), 150 DATA22 (io), 151 DATA21 (io), 153 DATA20 (io), 154 DATA19 (io), 155 DATA18 (io), 157 DATA17 (io), 158 DATA16 (io), 159 DATA15 (io), 161 DATA14 (io), 162 DATA13 (io), 163 DATA12 (io), 165 DATA11 (io), 166 DATA10 (io), 167 DATA9 (io), 169 DATA8 (io), 170 DATA7 (io), 171 DATA6 (io), 173 DATA5 (io), 174 DATA4 (io), 175 DATA3 (io), 177 DATA2 (io), 178 DATA1 (io), 179 DATA0 (io), 229 ID2 (in), 230 ID1 (in), 231 ID0 (in), 232 LBOOT (in), 233 RPBA (in), 234 ~{RESET} (in), 235 EBOOT (in), 236 ~{IRQ}2 (in), 237 ~{IRQ}1 (in), 238 ~{IRQ}0 (in), 239 TCK (in), 240 TMS (in)
part B pins: 3 VDD (power), 12 GND (power), 15 VDD (power), 19 GND (power), 23 VDD (power), 27 GND (power), 31 VDD (power), 34 GND (power), 38 VDD (power), 39 VDD (power), 43 GND (power), 47 VDD (power), 48 GND (power), 49 VDD (power), 53 GND (power), 61 GND (power), 62 VDD (power), 63 VDD (power), 67 GND (power), 78 GND (power), 86 VDD (power), 87 VDD (power), 88 GND (power), 95 GND (power), 96 VDD (power), 97 GND (power), 103 VDD (power), 110 GND (power), 111 VDD (power), 112 GND (power), 116 VDD (power), 120 GND (power), 124 VDD (power), 128 GND (power), 129 NC, 133 VDD (power), 134 VDD (power), 135 GND (power), 139 GND (power), 143 VDD (power), 144 VDD (power), 148 GND (power), 152 VDD (power), 156 GND (power), 160 VDD (power), 164 GND (power), 168 VDD (power), 172 GND (power), 176 VDD (power), 180 GND (power), 181 GND (power), 182 NC, 183 NC, 184 NC, 185 NC, 186 NC, 187 NC, 188 VDD (power), 189 NC, 190 NC, 191 NC, 192 NC, 193 NC, 194 NC, 195 GND (power), 196 GND (power), 197 VDD (power), 198 NC, 199 NC, 200 NC, 201 NC, 202 NC, 203 NC, 204 NC, 205 VDD (power), 206 NC, 207 NC, 208 NC, 209 NC, 210 NC, 211 NC, 212 GND (power), 213 NC, 214 NC, 215 NC, 216 NC, 217 NC, 218 NC, 219 VDD (power), 220 GND (power), 221 VDD (power), 222 NC, 223 NC, 224 NC, 225 NC, 226 NC, 227 NC, 228 GND (power)

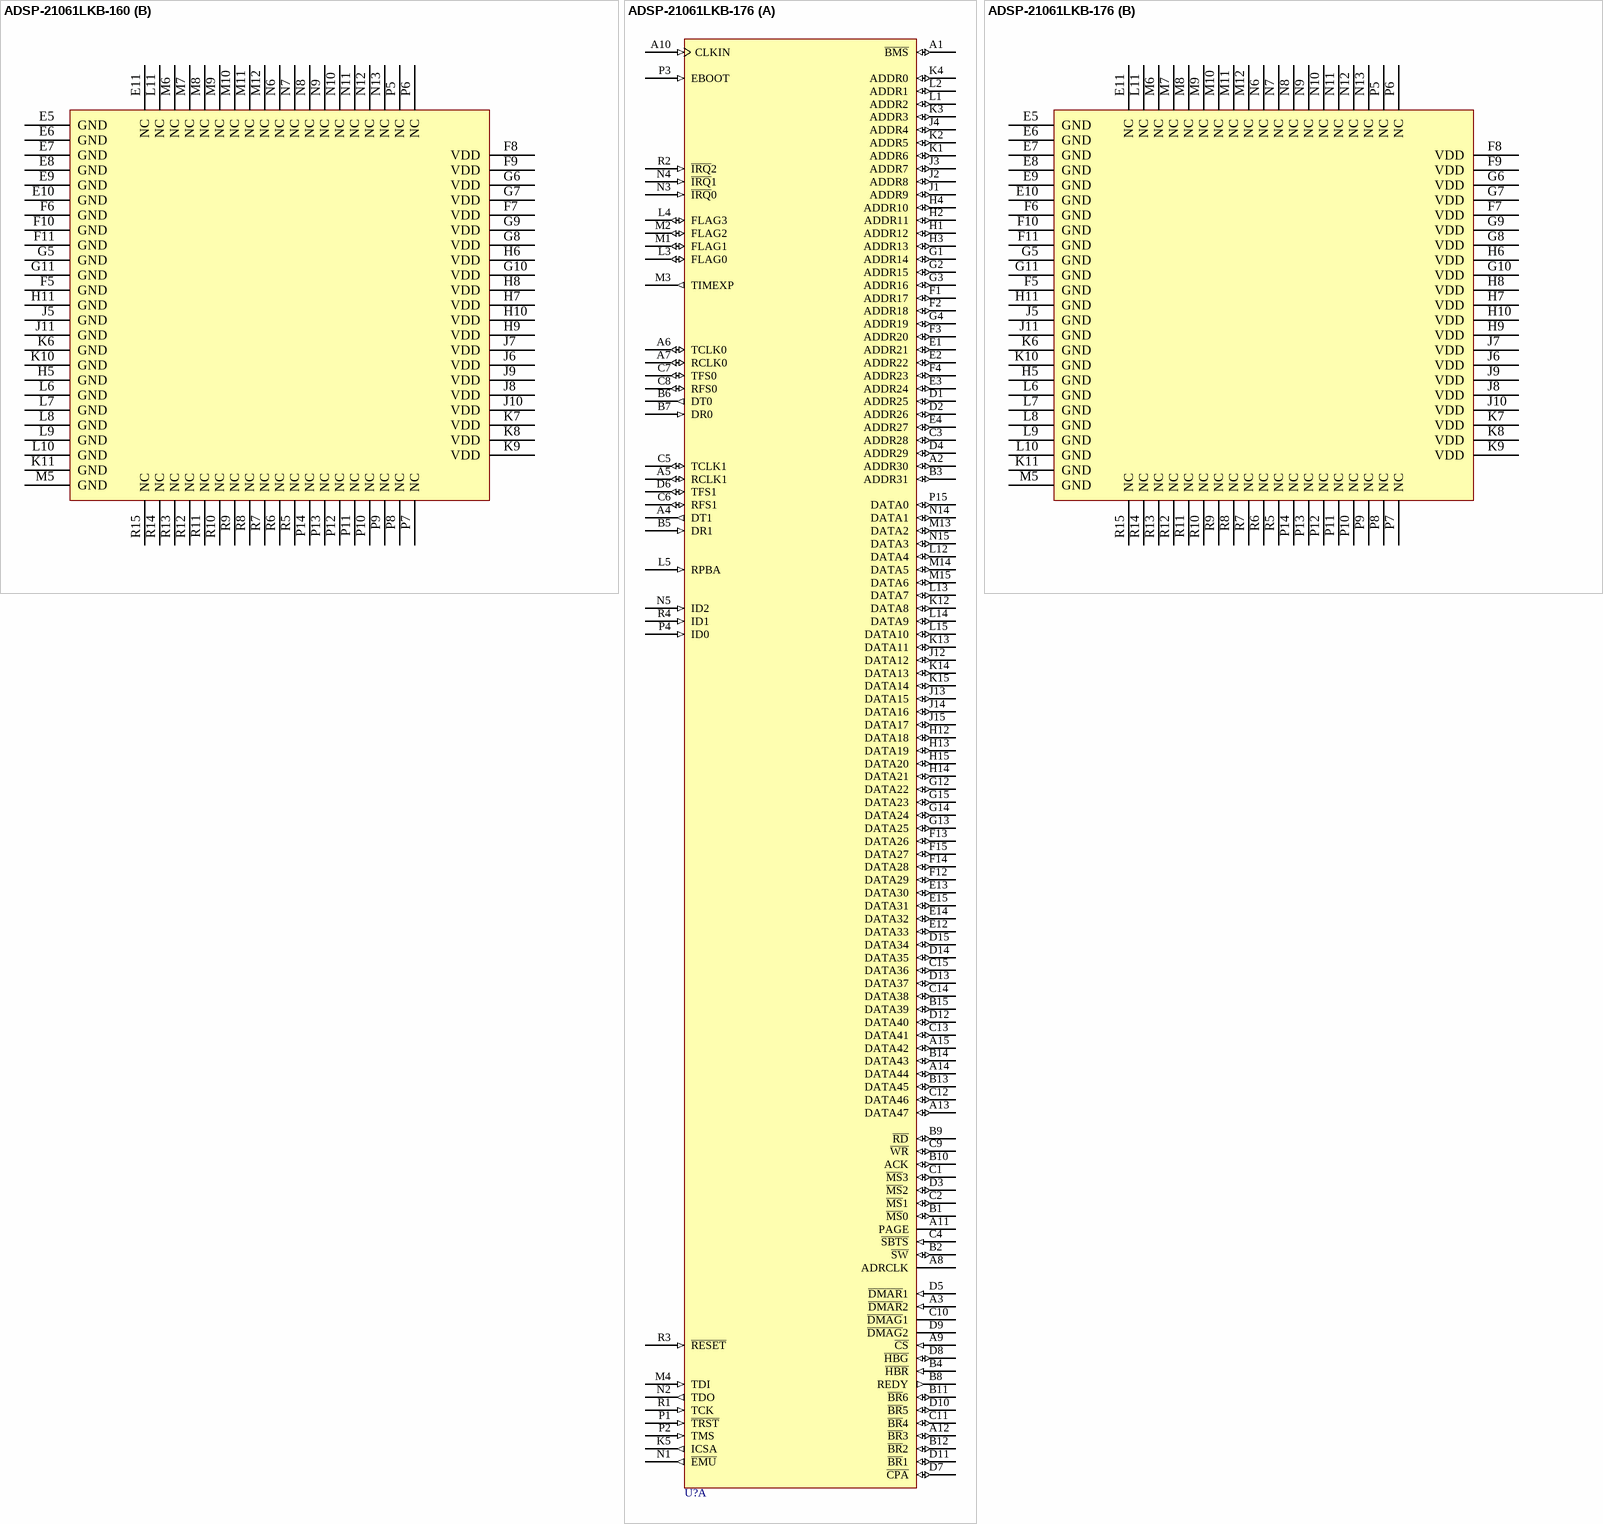
[diagram p31: symbols ADSP-21061LKB-160 to ADSP-21061LKB-176]

## ADSP-21061LKB-160
designator U?
SHARC, 40MHZ, 150 MFLOPS, 3.3V, Floating Point; Published: 24-Aug-2001; LatestRevisionDate: 13-Apr-2006; LatestRevisionNote: IPC-7351 Footprint Added.; DatasheetVersion: 2000; PackageVersion: revB; PackageReference: B225; Publisher: Altium Limited; PackageDescription: 225-Ball Ball Grid Array 1.27 mm Pitch; ComponentLink1Description: Manufacturer Link; ComponentLink1URL: http://www.analog.com/
footprint B225 (BGA, 225-Leads, Body 23x23mm, Pitch 1.27mm)
3D model 21061L-B225 (225-Ball Ball Grid Array 1.27 mm Pitch)
part A pins: A1 ~{BMS} (io), A2 ADDR30 (io), A3 ~{DMAR}2 (in), A4 DT1 (out), A5 RCLK1 (io), A6 TCLK0 (io), A7 RCLK0 (io), A8 ADRCLK (hiz), A9 ~{CS} (in), A10 CLKIN (in), A11 PAGE (hiz), A12 ~{BR}3 (io), A13 DATA47 (io), A14 DATA44 (io), A15 DATA42 (io), B1 ~{MS}0 (io), B2 ~{SW} (io), B3 ADDR31 (io), B4 ~{HBR} (in), B5 DR1 (in), B6 DT0 (out), B7 DR0 (in), B8 REDY (out), B9 ~{RD} (io), B10 ACK (io), B11 ~{BR}6 (io), B12 ~{BR}2 (io), B13 DATA45 (io), B14 DATA43 (io), B15 DATA39 (io), C1 ~{MS}3 (io), C2 ~{MS}1 (io), C3 ADDR28 (io), C4 ~{SBTS} (in), C5 TCLK1 (io), C6 RFS1 (io), C7 TFS0 (io), C8 RFS0 (io), C9 ~{WR} (io), C10 ~{DMAG}1 (hiz), C11 ~{BR}4 (io), C12 DATA46 (io), C13 DATA41 (io), C14 DATA38 (io), C15 DATA36 (io), D1 ADDR25 (io), D2 ADDR26 (io), D3 ~{MS}2 (io), D4 ADDR29 (io), D5 ~{DMAR}1 (in), D6 TFS1 (io), D7 ~{CPA} (io), D8 ~{HBG} (io), D9 ~{DMAG}2 (hiz), D10 ~{BR}5 (io), D11 ~{BR}1 (io), D12 DATA40 (io), D13 DATA37 (io), D14 DATA35 (io), D15 DATA34 (io), E1 ADDR21 (io), E2 ADDR22 (io), E3 ADDR24 (io), E4 ADDR27 (io), E12 DATA33 (io), E13 DATA30 (io), E14 DATA32 (io), E15 DATA31 (io), F1 ADDR17 (io), F2 ADDR18 (io), F3 ADDR20 (io), F4 ADDR23 (io), F12 DATA29 (io), F13 DATA26 (io), F14 DATA28 (io), F15 DATA27 (io), G1 ADDR14 (io), G2 ADDR15 (io), G3 ADDR16 (io), G4 ADDR19 (io), G12 DATA22 (io), G13 DATA25 (io), G14 DATA24 (io), G15 DATA23 (io), H1 ADDR12 (io), H2 ADDR11 (io), H3 ADDR13 (io), H4 ADDR10 (io), H12 DATA18 (io), H13 DATA19 (io), H14 DATA21 (io), H15 DATA20 (io), J1 ADDR9 (io), J2 ADDR8 (io), J3 ADDR7 (io), J4 ADDR4 (io), J12 DATA12 (io), J13 DATA15 (io), J14 DATA16 (io), J15 DATA17 (io), K1 ADDR6 (io), K2 ADDR5 (io), K3 ADDR3 (io), K4 ADDR0 (io), K5 ICSA (out), K12 DATA8 (io), K13 DATA11 (io), K14 DATA13 (io), K15 DATA14 (io), L1 ADDR2 (io), L2 ADDR1 (io), L3 FLAG0 (io), L4 FLAG3 (io), L5 RPBA (in), L12 DATA4 (io), L13 DATA7 (io), L14 DATA9 (io), L15 DATA10 (io), M1 FLAG1 (io), M2 FLAG2 (io), M3 TIMEXP (out), M4 TDI (in), M13 DATA2 (io), M14 DATA5 (io), M15 DATA6 (io), N1 ~{EMU} (out), N2 TDO (out), N3 ~{IRQ}0 (in), N4 ~{IRQ}1 (in), N5 ID2 (in), N14 DATA1 (io), N15 DATA3 (io), P1 ~{TRST} (in), P2 TMS (in), P3 EBOOT (in), P4 ID0 (in), P15 DATA0 (io), R1 TCK (in), R2 ~{IRQ}2 (in), R3 ~{RESET} (in), R4 ID1 (in)
part B pins: E5 GND (power), E6 GND (power), E7 GND (power), E8 GND (power), E9 GND (power), E10 GND (power), E11 NC, F5 GND (power), F6 GND (power), F7 VDD (power), F8 VDD (power), F9 VDD (power), F10 GND (power), F11 GND (power), G5 GND (power), G6 VDD (power), G7 VDD (power), G8 VDD (power), G9 VDD (power), G10 VDD (power), G11 GND (power), H5 GND (power), H6 VDD (power), H7 VDD (power), H8 VDD (power), H9 VDD (power), H10 VDD (power), H11 GND (power), J5 GND (power), J6 VDD (power), J7 VDD (power), J8 VDD (power), J9 VDD (power), J10 VDD (power), J11 GND (power), K6 GND (power), K7 VDD (power), K8 VDD (power), K9 VDD (power), K10 GND (power), K11 GND (power), L6 GND (power), L7 GND (power), L8 GND (power), L9 GND (power), L10 GND (power), L11 NC, M5 GND (power), M6 NC, M7 NC, M8 NC, M9 NC, M10 NC, M11 NC, M12 NC, N6 NC, N7 NC, N8 NC, N9 NC, N10 NC, N11 NC, N12 NC, N13 NC, P5 NC, P6 NC, P7 NC, P8 NC, P9 NC, P10 NC, P11 NC, P12 NC, P13 NC, P14 NC, R5 NC, R6 NC, R7 NC, R8 NC, R9 NC, R10 NC, R11 NC, R12 NC, R13 NC, R14 NC, R15 NC

## ADSP-21061LKB-176
designator U?
SHARC, 44MHZ, 150 MFLOPS, 3.3V, Floating Point; Published: 24-Aug-2001; LatestRevisionDate: 13-Apr-2006; LatestRevisionNote: IPC-7351 Footprint Added.; DatasheetVersion: 2000; PackageVersion: revB; PackageReference: B225; Publisher: Altium Limited; PackageDescription: 225-Ball Ball Grid Array 1.27 mm Pitch; ComponentLink1Description: Manufacturer Link; ComponentLink1URL: http://www.analog.com/
footprint B225 (BGA, 225-Leads, Body 23x23mm, Pitch 1.27mm)
3D model 21061L-B225 (225-Ball Ball Grid Array 1.27 mm Pitch)
part A pins: A1 ~{BMS} (io), A2 ADDR30 (io), A3 ~{DMAR}2 (in), A4 DT1 (out), A5 RCLK1 (io), A6 TCLK0 (io), A7 RCLK0 (io), A8 ADRCLK (hiz), A9 ~{CS} (in), A10 CLKIN (in), A11 PAGE (hiz), A12 ~{BR}3 (io), A13 DATA47 (io), A14 DATA44 (io), A15 DATA42 (io), B1 ~{MS}0 (io), B2 ~{SW} (io), B3 ADDR31 (io), B4 ~{HBR} (in), B5 DR1 (in), B6 DT0 (out), B7 DR0 (in), B8 REDY (out), B9 ~{RD} (io), B10 ACK (io), B11 ~{BR}6 (io), B12 ~{BR}2 (io), B13 DATA45 (io), B14 DATA43 (io), B15 DATA39 (io), C1 ~{MS}3 (io), C2 ~{MS}1 (io), C3 ADDR28 (io), C4 ~{SBTS} (in), C5 TCLK1 (io), C6 RFS1 (io), C7 TFS0 (io), C8 RFS0 (io), C9 ~{WR} (io), C10 ~{DMAG}1 (hiz), C11 ~{BR}4 (io), C12 DATA46 (io), C13 DATA41 (io), C14 DATA38 (io), C15 DATA36 (io), D1 ADDR25 (io), D2 ADDR26 (io), D3 ~{MS}2 (io), D4 ADDR29 (io), D5 ~{DMAR}1 (in), D6 TFS1 (io), D7 ~{CPA} (io), D8 ~{HBG} (io), D9 ~{DMAG}2 (hiz), D10 ~{BR}5 (io), D11 ~{BR}1 (io), D12 DATA40 (io), D13 DATA37 (io), D14 DATA35 (io), D15 DATA34 (io), E1 ADDR21 (io), E2 ADDR22 (io), E3 ADDR24 (io), E4 ADDR27 (io), E12 DATA33 (io), E13 DATA30 (io), E14 DATA32 (io), E15 DATA31 (io), F1 ADDR17 (io), F2 ADDR18 (io), F3 ADDR20 (io), F4 ADDR23 (io), F12 DATA29 (io), F13 DATA26 (io), F14 DATA28 (io), F15 DATA27 (io), G1 ADDR14 (io), G2 ADDR15 (io), G3 ADDR16 (io), G4 ADDR19 (io), G12 DATA22 (io), G13 DATA25 (io), G14 DATA24 (io), G15 DATA23 (io), H1 ADDR12 (io), H2 ADDR11 (io), H3 ADDR13 (io), H4 ADDR10 (io), H12 DATA18 (io), H13 DATA19 (io), H14 DATA21 (io), H15 DATA20 (io), J1 ADDR9 (io), J2 ADDR8 (io), J3 ADDR7 (io), J4 ADDR4 (io), J12 DATA12 (io), J13 DATA15 (io), J14 DATA16 (io), J15 DATA17 (io), K1 ADDR6 (io), K2 ADDR5 (io), K3 ADDR3 (io), K4 ADDR0 (io), K5 ICSA (out), K12 DATA8 (io), K13 DATA11 (io), K14 DATA13 (io), K15 DATA14 (io), L1 ADDR2 (io), L2 ADDR1 (io), L3 FLAG0 (io), L4 FLAG3 (io), L5 RPBA (in), L12 DATA4 (io), L13 DATA7 (io), L14 DATA9 (io), L15 DATA10 (io), M1 FLAG1 (io), M2 FLAG2 (io), M3 TIMEXP (out), M4 TDI (in), M13 DATA2 (io), M14 DATA5 (io), M15 DATA6 (io), N1 ~{EMU} (out), N2 TDO (out), N3 ~{IRQ}0 (in), N4 ~{IRQ}1 (in), N5 ID2 (in), N14 DATA1 (io), N15 DATA3 (io), P1 ~{TRST} (in), P2 TMS (in), P3 EBOOT (in), P4 ID0 (in), P15 DATA0 (io), R1 TCK (in), R2 ~{IRQ}2 (in), R3 ~{RESET} (in), R4 ID1 (in)
part B pins: E5 GND (power), E6 GND (power), E7 GND (power), E8 GND (power), E9 GND (power), E10 GND (power), E11 NC, F5 GND (power), F6 GND (power), F7 VDD (power), F8 VDD (power), F9 VDD (power), F10 GND (power), F11 GND (power), G5 GND (power), G6 VDD (power), G7 VDD (power), G8 VDD (power), G9 VDD (power), G10 VDD (power), G11 GND (power), H5 GND (power), H6 VDD (power), H7 VDD (power), H8 VDD (power), H9 VDD (power), H10 VDD (power), H11 GND (power), J5 GND (power), J6 VDD (power), J7 VDD (power), J8 VDD (power), J9 VDD (power), J10 VDD (power), J11 GND (power), K6 GND (power), K7 VDD (power), K8 VDD (power), K9 VDD (power), K10 GND (power), K11 GND (power), L6 GND (power), L7 GND (power), L8 GND (power), L9 GND (power), L10 GND (power), L11 NC, M5 GND (power), M6 NC, M7 NC, M8 NC, M9 NC, M10 NC, M11 NC, M12 NC, N6 NC, N7 NC, N8 NC, N9 NC, N10 NC, N11 NC, N12 NC, N13 NC, P5 NC, P6 NC, P7 NC, P8 NC, P9 NC, P10 NC, P11 NC, P12 NC, P13 NC, P14 NC, R5 NC, R6 NC, R7 NC, R8 NC, R9 NC, R10 NC, R11 NC, R12 NC, R13 NC, R14 NC, R15 NC

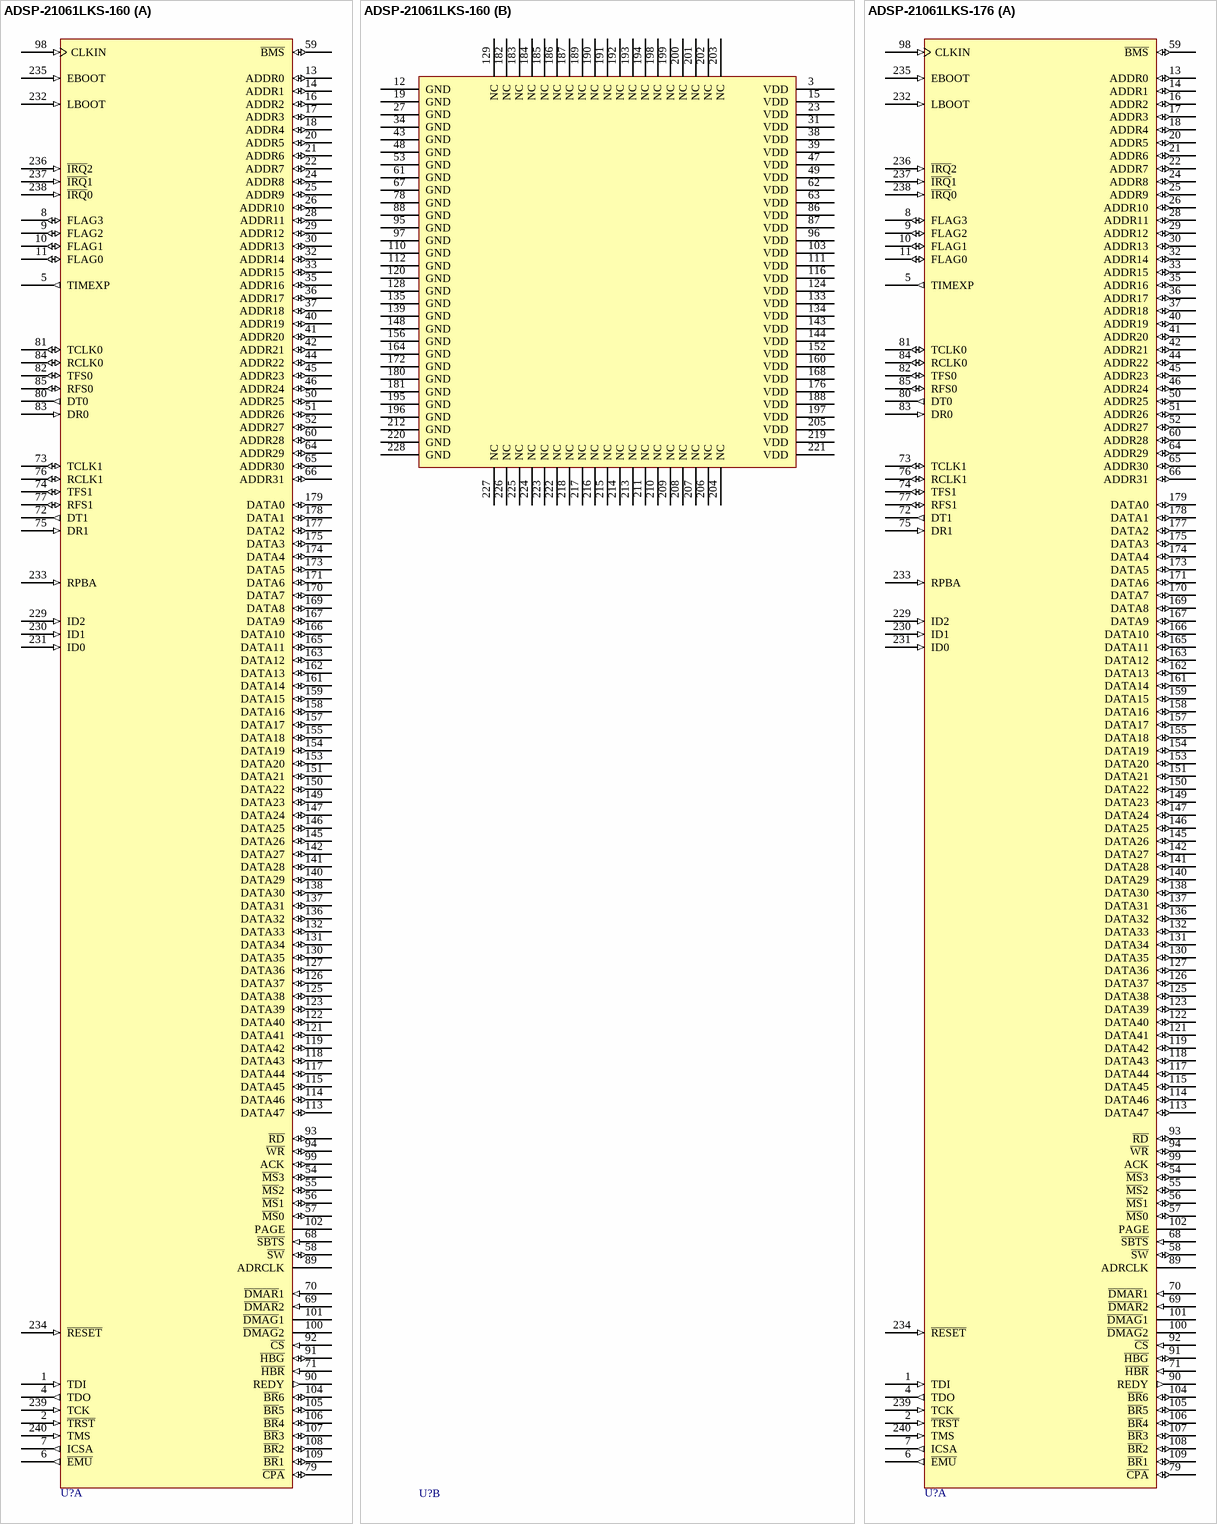
[diagram p32: symbols ADSP-21061LKS-160 to ADSP-21061LKS-176]

## ADSP-21061LKS-160
designator U?
SHARC, 40MHZ, 150 MFLOPS, 3.3V, Floating Point; Published: 24-Aug-2001; LatestRevisionDate: 13-Apr-2006; LatestRevisionNote: IPC-7351 Footprint Added.; DatasheetVersion: 2000; PackageVersion: 2000; PackageReference: MQFP240-3.3V; Publisher: Altium Limited; PackageDescription: 240-Pin Shrink Quad Flat Pack 0.5 mm Pitch; ComponentLink1Description: Manufacturer Link; ComponentLink1URL: http://www.analog.com/
footprint MQFP240-3.3V_N (Shrink QFP, 240-Leads, Body 32x32mm, Pitch 0.5mm, IPC Medium Density)
footprint MQFP240-3.3V_L (Shrink QFP, 240-Leads, Body 32x32mm, Pitch 0.5mm, IPC High Density)
footprint MQFP240-3.3V_M (Shrink QFP, 240-Leads, Body 32x32mm, Pitch 0.5mm, IPC Low Density)
3D model 21061L-MQFP240 (240-Pin Shrink Quad Flat Pack 0.5 mm Pitch)
part A pins: 1 TDI (in), 2 ~{TRST} (in), 4 TDO (out), 5 TIMEXP (out), 6 ~{EMU} (out), 7 ICSA (out), 8 FLAG3 (io), 9 FLAG2 (io), 10 FLAG1 (io), 11 FLAG0 (io), 13 ADDR0 (io), 14 ADDR1 (io), 16 ADDR2 (io), 17 ADDR3 (io), 18 ADDR4 (io), 20 ADDR5 (io), 21 ADDR6 (io), 22 ADDR7 (io), 24 ADDR8 (io), 25 ADDR9 (io), 26 ADDR10 (io), 28 ADDR11 (io), 29 ADDR12 (io), 30 ADDR13 (io), 32 ADDR14 (io), 33 ADDR15 (io), 35 ADDR16 (io), 36 ADDR17 (io), 37 ADDR18 (io), 40 ADDR19 (io), 41 ADDR20 (io), 42 ADDR21 (io), 44 ADDR22 (io), 45 ADDR23 (io), 46 ADDR24 (io), 50 ADDR25 (io), 51 ADDR26 (io), 52 ADDR27 (io), 54 ~{MS}3 (io), 55 ~{MS}2 (io), 56 ~{MS}1 (io), 57 ~{MS}0 (io), 58 ~{SW} (io), 59 ~{BMS} (io), 60 ADDR28 (io), 64 ADDR29 (io), 65 ADDR30 (io), 66 ADDR31 (io), 68 ~{SBTS} (in), 69 ~{DMAR}2 (in), 70 ~{DMAR}1 (in), 71 ~{HBR} (in), 72 DT1 (out), 73 TCLK1 (io), 74 TFS1 (io), 75 DR1 (in), 76 RCLK1 (io), 77 RFS1 (io), 79 ~{CPA} (io), 80 DT0 (out), 81 TCLK0 (io), 82 TFS0 (io), 83 DR0 (in), 84 RCLK0 (io), 85 RFS0 (io), 89 ADRCLK (hiz), 90 REDY (out), 91 ~{HBG} (io), 92 ~{CS} (in), 93 ~{RD} (io), 94 ~{WR} (io), 98 CLKIN (in), 99 ACK (io), 100 ~{DMAG}2 (hiz), 101 ~{DMAG}1 (hiz), 102 PAGE (hiz), 104 ~{BR}6 (io), 105 ~{BR}5 (io), 106 ~{BR}4 (io), 107 ~{BR}3 (io), 108 ~{BR}2 (io), 109 ~{BR}1 (io), 113 DATA47 (io), 114 DATA46 (io), 115 DATA45 (io), 117 DATA44 (io), 118 DATA43 (io), 119 DATA42 (io), 121 DATA41 (io), 122 DATA40 (io), 123 DATA39 (io), 125 DATA38 (io), 126 DATA37 (io), 127 DATA36 (io), 130 DATA35 (io), 131 DATA34 (io), 132 DATA33 (io), 136 DATA32 (io), 137 DATA31 (io), 138 DATA30 (io), 140 DATA29 (io), 141 DATA28 (io), 142 DATA27 (io), 145 DATA26 (io), 146 DATA25 (io), 147 DATA24 (io), 149 DATA23 (io), 150 DATA22 (io), 151 DATA21 (io), 153 DATA20 (io), 154 DATA19 (io), 155 DATA18 (io), 157 DATA17 (io), 158 DATA16 (io), 159 DATA15 (io), 161 DATA14 (io), 162 DATA13 (io), 163 DATA12 (io), 165 DATA11 (io), 166 DATA10 (io), 167 DATA9 (io), 169 DATA8 (io), 170 DATA7 (io), 171 DATA6 (io), 173 DATA5 (io), 174 DATA4 (io), 175 DATA3 (io), 177 DATA2 (io), 178 DATA1 (io), 179 DATA0 (io), 229 ID2 (in), 230 ID1 (in), 231 ID0 (in), 232 LBOOT (in), 233 RPBA (in), 234 ~{RESET} (in), 235 EBOOT (in), 236 ~{IRQ}2 (in), 237 ~{IRQ}1 (in), 238 ~{IRQ}0 (in), 239 TCK (in), 240 TMS (in)
part B pins: 3 VDD (power), 12 GND (power), 15 VDD (power), 19 GND (power), 23 VDD (power), 27 GND (power), 31 VDD (power), 34 GND (power), 38 VDD (power), 39 VDD (power), 43 GND (power), 47 VDD (power), 48 GND (power), 49 VDD (power), 53 GND (power), 61 GND (power), 62 VDD (power), 63 VDD (power), 67 GND (power), 78 GND (power), 86 VDD (power), 87 VDD (power), 88 GND (power), 95 GND (power), 96 VDD (power), 97 GND (power), 103 VDD (power), 110 GND (power), 111 VDD (power), 112 GND (power), 116 VDD (power), 120 GND (power), 124 VDD (power), 128 GND (power), 129 NC, 133 VDD (power), 134 VDD (power), 135 GND (power), 139 GND (power), 143 VDD (power), 144 VDD (power), 148 GND (power), 152 VDD (power), 156 GND (power), 160 VDD (power), 164 GND (power), 168 VDD (power), 172 GND (power), 176 VDD (power), 180 GND (power), 181 GND (power), 182 NC, 183 NC, 184 NC, 185 NC, 186 NC, 187 NC, 188 VDD (power), 189 NC, 190 NC, 191 NC, 192 NC, 193 NC, 194 NC, 195 GND (power), 196 GND (power), 197 VDD (power), 198 NC, 199 NC, 200 NC, 201 NC, 202 NC, 203 NC, 204 NC, 205 VDD (power), 206 NC, 207 NC, 208 NC, 209 NC, 210 NC, 211 NC, 212 GND (power), 213 NC, 214 NC, 215 NC, 216 NC, 217 NC, 218 NC, 219 VDD (power), 220 GND (power), 221 VDD (power), 222 NC, 223 NC, 224 NC, 225 NC, 226 NC, 227 NC, 228 GND (power)

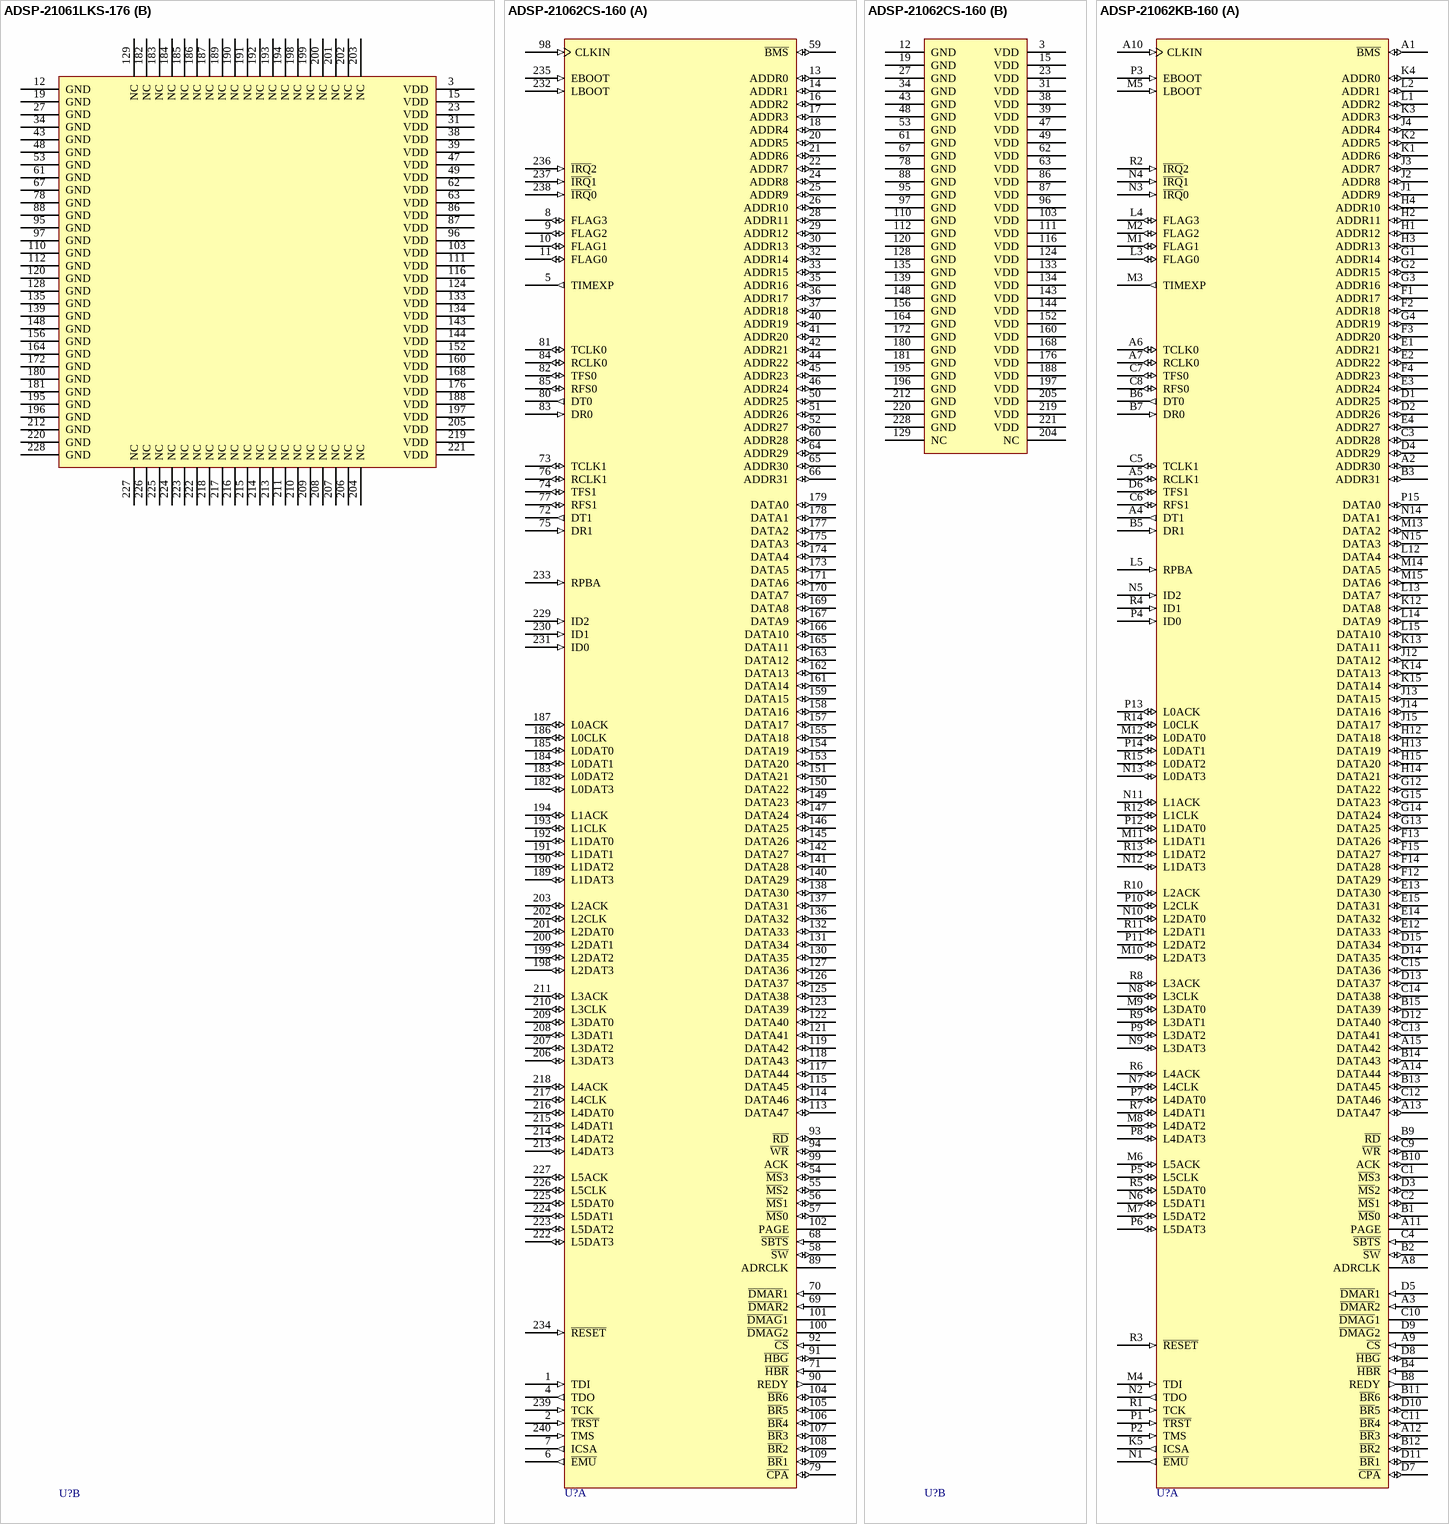
[diagram p33: symbols ADSP-21061LKS-176 to ADSP-21062KB-160]

## ADSP-21061LKS-176
designator U?
SHARC, 44MHZ, 150 MFLOPS, 3.3V, Floating Point; Published: 24-Aug-2001; LatestRevisionDate: 13-Apr-2006; LatestRevisionNote: IPC-7351 Footprint Added.; DatasheetVersion: 2000; PackageVersion: 2000; PackageReference: MQFP240-3.3V; Publisher: Altium Limited; PackageDescription: 240-Pin Shrink Quad Flat Pack 0.5 mm Pitch; ComponentLink1Description: Manufacturer Link; ComponentLink1URL: http://www.analog.com/
footprint MQFP240-3.3V_N (Shrink QFP, 240-Leads, Body 32x32mm, Pitch 0.5mm, IPC Medium Density)
footprint MQFP240-3.3V_L (Shrink QFP, 240-Leads, Body 32x32mm, Pitch 0.5mm, IPC High Density)
footprint MQFP240-3.3V_M (Shrink QFP, 240-Leads, Body 32x32mm, Pitch 0.5mm, IPC Low Density)
3D model 21061L-MQFP240 (240-Pin Shrink Quad Flat Pack 0.5 mm Pitch)
part A pins: 1 TDI (in), 2 ~{TRST} (in), 4 TDO (out), 5 TIMEXP (out), 6 ~{EMU} (out), 7 ICSA (out), 8 FLAG3 (io), 9 FLAG2 (io), 10 FLAG1 (io), 11 FLAG0 (io), 13 ADDR0 (io), 14 ADDR1 (io), 16 ADDR2 (io), 17 ADDR3 (io), 18 ADDR4 (io), 20 ADDR5 (io), 21 ADDR6 (io), 22 ADDR7 (io), 24 ADDR8 (io), 25 ADDR9 (io), 26 ADDR10 (io), 28 ADDR11 (io), 29 ADDR12 (io), 30 ADDR13 (io), 32 ADDR14 (io), 33 ADDR15 (io), 35 ADDR16 (io), 36 ADDR17 (io), 37 ADDR18 (io), 40 ADDR19 (io), 41 ADDR20 (io), 42 ADDR21 (io), 44 ADDR22 (io), 45 ADDR23 (io), 46 ADDR24 (io), 50 ADDR25 (io), 51 ADDR26 (io), 52 ADDR27 (io), 54 ~{MS}3 (io), 55 ~{MS}2 (io), 56 ~{MS}1 (io), 57 ~{MS}0 (io), 58 ~{SW} (io), 59 ~{BMS} (io), 60 ADDR28 (io), 64 ADDR29 (io), 65 ADDR30 (io), 66 ADDR31 (io), 68 ~{SBTS} (in), 69 ~{DMAR}2 (in), 70 ~{DMAR}1 (in), 71 ~{HBR} (in), 72 DT1 (out), 73 TCLK1 (io), 74 TFS1 (io), 75 DR1 (in), 76 RCLK1 (io), 77 RFS1 (io), 79 ~{CPA} (io), 80 DT0 (out), 81 TCLK0 (io), 82 TFS0 (io), 83 DR0 (in), 84 RCLK0 (io), 85 RFS0 (io), 89 ADRCLK (hiz), 90 REDY (out), 91 ~{HBG} (io), 92 ~{CS} (in), 93 ~{RD} (io), 94 ~{WR} (io), 98 CLKIN (in), 99 ACK (io), 100 ~{DMAG}2 (hiz), 101 ~{DMAG}1 (hiz), 102 PAGE (hiz), 104 ~{BR}6 (io), 105 ~{BR}5 (io), 106 ~{BR}4 (io), 107 ~{BR}3 (io), 108 ~{BR}2 (io), 109 ~{BR}1 (io), 113 DATA47 (io), 114 DATA46 (io), 115 DATA45 (io), 117 DATA44 (io), 118 DATA43 (io), 119 DATA42 (io), 121 DATA41 (io), 122 DATA40 (io), 123 DATA39 (io), 125 DATA38 (io), 126 DATA37 (io), 127 DATA36 (io), 130 DATA35 (io), 131 DATA34 (io), 132 DATA33 (io), 136 DATA32 (io), 137 DATA31 (io), 138 DATA30 (io), 140 DATA29 (io), 141 DATA28 (io), 142 DATA27 (io), 145 DATA26 (io), 146 DATA25 (io), 147 DATA24 (io), 149 DATA23 (io), 150 DATA22 (io), 151 DATA21 (io), 153 DATA20 (io), 154 DATA19 (io), 155 DATA18 (io), 157 DATA17 (io), 158 DATA16 (io), 159 DATA15 (io), 161 DATA14 (io), 162 DATA13 (io), 163 DATA12 (io), 165 DATA11 (io), 166 DATA10 (io), 167 DATA9 (io), 169 DATA8 (io), 170 DATA7 (io), 171 DATA6 (io), 173 DATA5 (io), 174 DATA4 (io), 175 DATA3 (io), 177 DATA2 (io), 178 DATA1 (io), 179 DATA0 (io), 229 ID2 (in), 230 ID1 (in), 231 ID0 (in), 232 LBOOT (in), 233 RPBA (in), 234 ~{RESET} (in), 235 EBOOT (in), 236 ~{IRQ}2 (in), 237 ~{IRQ}1 (in), 238 ~{IRQ}0 (in), 239 TCK (in), 240 TMS (in)
part B pins: 3 VDD (power), 12 GND (power), 15 VDD (power), 19 GND (power), 23 VDD (power), 27 GND (power), 31 VDD (power), 34 GND (power), 38 VDD (power), 39 VDD (power), 43 GND (power), 47 VDD (power), 48 GND (power), 49 VDD (power), 53 GND (power), 61 GND (power), 62 VDD (power), 63 VDD (power), 67 GND (power), 78 GND (power), 86 VDD (power), 87 VDD (power), 88 GND (power), 95 GND (power), 96 VDD (power), 97 GND (power), 103 VDD (power), 110 GND (power), 111 VDD (power), 112 GND (power), 116 VDD (power), 120 GND (power), 124 VDD (power), 128 GND (power), 129 NC, 133 VDD (power), 134 VDD (power), 135 GND (power), 139 GND (power), 143 VDD (power), 144 VDD (power), 148 GND (power), 152 VDD (power), 156 GND (power), 160 VDD (power), 164 GND (power), 168 VDD (power), 172 GND (power), 176 VDD (power), 180 GND (power), 181 GND (power), 182 NC, 183 NC, 184 NC, 185 NC, 186 NC, 187 NC, 188 VDD (power), 189 NC, 190 NC, 191 NC, 192 NC, 193 NC, 194 NC, 195 GND (power), 196 GND (power), 197 VDD (power), 198 NC, 199 NC, 200 NC, 201 NC, 202 NC, 203 NC, 204 NC, 205 VDD (power), 206 NC, 207 NC, 208 NC, 209 NC, 210 NC, 211 NC, 212 GND (power), 213 NC, 214 NC, 215 NC, 216 NC, 217 NC, 218 NC, 219 VDD (power), 220 GND (power), 221 VDD (power), 222 NC, 223 NC, 224 NC, 225 NC, 226 NC, 227 NC, 228 GND (power)

## ADSP-21062CS-160
designator U?
SHARC, 40MHZ, 120 MFLOPS, 5V, DSP Microcomputer Floating Point; PackageFeature: Thermally Enhanced MQFP includes heat slug on its top surface; Published: 24-Aug-2001; LatestRevisionDate: 13-Apr-2006; LatestRevisionNote: IPC-7351 Footprint Added.; DatasheetVersion: 2000; PackageVersion: 2000; PackageReference: MQFP240-5V; Publisher: Altium Limited; PackageDescription: 240-Pin Shrink Quad Flat Pack 0.5 mm Pitch; ComponentLink1Description: Manufacturer Link; ComponentLink1URL: http://www.analog.com/; ComponentLink2Description: Datasheet; ComponentLink2URL: http://www.analog.com/UploadedFiles/Data_Sheets/7987730331233011ADSP_21062_L_b.pdf
footprint MQFP240-5V_N (Shrink QFP, 240-Leads, Body 32x32mm, Pitch 0.5mm, IPC Medium Density)
footprint MQFP240-5V_L (Shrink QFP, 240-Leads, Body 32x32mm, Pitch 0.5mm, IPC High Density)
footprint MQFP240-5V_M (Shrink QFP, 240-Leads, Body 32x32mm, Pitch 0.5mm, IPC Low Density)
3D model 21062-MQFP240 (240-Pin Shrink Quad Flat Pack 0.5 mm Pitch)
part A pins: 1 TDI (in), 2 ~{TRST} (in), 4 TDO (out), 5 TIMEXP (out), 6 ~{EMU} (out), 7 ICSA (out), 8 FLAG3 (io), 9 FLAG2 (io), 10 FLAG1 (io), 11 FLAG0 (io), 13 ADDR0 (io), 14 ADDR1 (io), 16 ADDR2 (io), 17 ADDR3 (io), 18 ADDR4 (io), 20 ADDR5 (io), 21 ADDR6 (io), 22 ADDR7 (io), 24 ADDR8 (io), 25 ADDR9 (io), 26 ADDR10 (io), 28 ADDR11 (io), 29 ADDR12 (io), 30 ADDR13 (io), 32 ADDR14 (io), 33 ADDR15 (io), 35 ADDR16 (io), 36 ADDR17 (io), 37 ADDR18 (io), 40 ADDR19 (io), 41 ADDR20 (io), 42 ADDR21 (io), 44 ADDR22 (io), 45 ADDR23 (io), 46 ADDR24 (io), 50 ADDR25 (io), 51 ADDR26 (io), 52 ADDR27 (io), 54 ~{MS}3 (io), 55 ~{MS}2 (io), 56 ~{MS}1 (io), 57 ~{MS}0 (io), 58 ~{SW} (io), 59 ~{BMS} (io), 60 ADDR28 (io), 64 ADDR29 (io), 65 ADDR30 (io), 66 ADDR31 (io), 68 ~{SBTS} (in), 69 ~{DMAR}2 (in), 70 ~{DMAR}1 (in), 71 ~{HBR} (in), 72 DT1 (out), 73 TCLK1 (io), 74 TFS1 (io), 75 DR1 (in), 76 RCLK1 (io), 77 RFS1 (io), 79 ~{CPA} (io), 80 DT0 (out), 81 TCLK0 (io), 82 TFS0 (io), 83 DR0 (in), 84 RCLK0 (io), 85 RFS0 (io), 89 ADRCLK (hiz), 90 REDY (out), 91 ~{HBG} (io), 92 ~{CS} (in), 93 ~{RD} (io), 94 ~{WR} (io), 98 CLKIN (in), 99 ACK (io), 100 ~{DMAG}2 (hiz), 101 ~{DMAG}1 (hiz), 102 PAGE (hiz), 104 ~{BR}6 (io), 105 ~{BR}5 (io), 106 ~{BR}4 (io), 107 ~{BR}3 (io), 108 ~{BR}2 (io), 109 ~{BR}1 (io), 113 DATA47 (io), 114 DATA46 (io), 115 DATA45 (io), 117 DATA44 (io), 118 DATA43 (io), 119 DATA42 (io), 121 DATA41 (io), 122 DATA40 (io), 123 DATA39 (io), 125 DATA38 (io), 126 DATA37 (io), 127 DATA36 (io), 130 DATA35 (io), 131 DATA34 (io), 132 DATA33 (io), 136 DATA32 (io), 137 DATA31 (io), 138 DATA30 (io), 140 DATA29 (io), 141 DATA28 (io), 142 DATA27 (io), 145 DATA26 (io), 146 DATA25 (io), 147 DATA24 (io), 149 DATA23 (io), 150 DATA22 (io), 151 DATA21 (io), 153 DATA20 (io), 154 DATA19 (io), 155 DATA18 (io), 157 DATA17 (io), 158 DATA16 (io), 159 DATA15 (io), 161 DATA14 (io), 162 DATA13 (io), 163 DATA12 (io), 165 DATA11 (io), 166 DATA10 (io), 167 DATA9 (io), 169 DATA8 (io), 170 DATA7 (io), 171 DATA6 (io), 173 DATA5 (io), 174 DATA4 (io), 175 DATA3 (io), 177 DATA2 (io), 178 DATA1 (io), 179 DATA0 (io), 182 L0DAT3 (io), 183 L0DAT2 (io), 184 L0DAT1 (io), 185 L0DAT0 (io), 186 L0CLK (io), 187 L0ACK (io), 189 L1DAT3 (io), 190 L1DAT2 (io), 191 L1DAT1 (io), 192 L1DAT0 (io), 193 L1CLK (io), 194 L1ACK (io), 198 L2DAT3 (io), 199 L2DAT2 (io), 200 L2DAT1 (io), 201 L2DAT0 (io), 202 L2CLK (io), 203 L2ACK (io), 206 L3DAT3 (io), 207 L3DAT2 (io), 208 L3DAT1 (io), 209 L3DAT0 (io), 210 L3CLK (io), 211 L3ACK (io), 213 L4DAT3 (io), 214 L4DAT2 (io), 215 L4DAT1 (io), 216 L4DAT0 (io), 217 L4CLK (io), 218 L4ACK (io), 222 L5DAT3 (io), 223 L5DAT2 (io), 224 L5DAT1 (io), 225 L5DAT0 (io), 226 L5CLK (io), 227 L5ACK (io), 229 ID2 (in), 230 ID1 (in), 231 ID0 (in), 232 LBOOT (in), 233 RPBA (in), 234 ~{RESET} (in), 235 EBOOT (in), 236 ~{IRQ}2 (in), 237 ~{IRQ}1 (in), 238 ~{IRQ}0 (in), 239 TCK (in), 240 TMS (in)
part B pins: 3 VDD (power), 12 GND (power), 15 VDD (power), 19 GND (power), 23 VDD (power), 27 GND (power), 31 VDD (power), 34 GND (power), 38 VDD (power), 39 VDD (power), 43 GND (power), 47 VDD (power), 48 GND (power), 49 VDD (power), 53 GND (power), 61 GND (power), 62 VDD (power), 63 VDD (power), 67 GND (power), 78 GND (power), 86 VDD (power), 87 VDD (power), 88 GND (power), 95 GND (power), 96 VDD (power), 97 GND (power), 103 VDD (power), 110 GND (power), 111 VDD (power), 112 GND (power), 116 VDD (power), 120 GND (power), 124 VDD (power), 128 GND (power), 129 NC, 133 VDD (power), 134 VDD (power), 135 GND (power), 139 GND (power), 143 VDD (power), 144 VDD (power), 148 GND (power), 152 VDD (power), 156 GND (power), 160 VDD (power), 164 GND (power), 168 VDD (power), 172 GND (power), 176 VDD (power), 180 GND (power), 181 GND (power), 188 VDD (power), 195 GND (power), 196 GND (power), 197 VDD (power), 204 NC, 205 VDD (power), 212 GND (power), 219 VDD (power), 220 GND (power), 221 VDD (power), 228 GND (power)

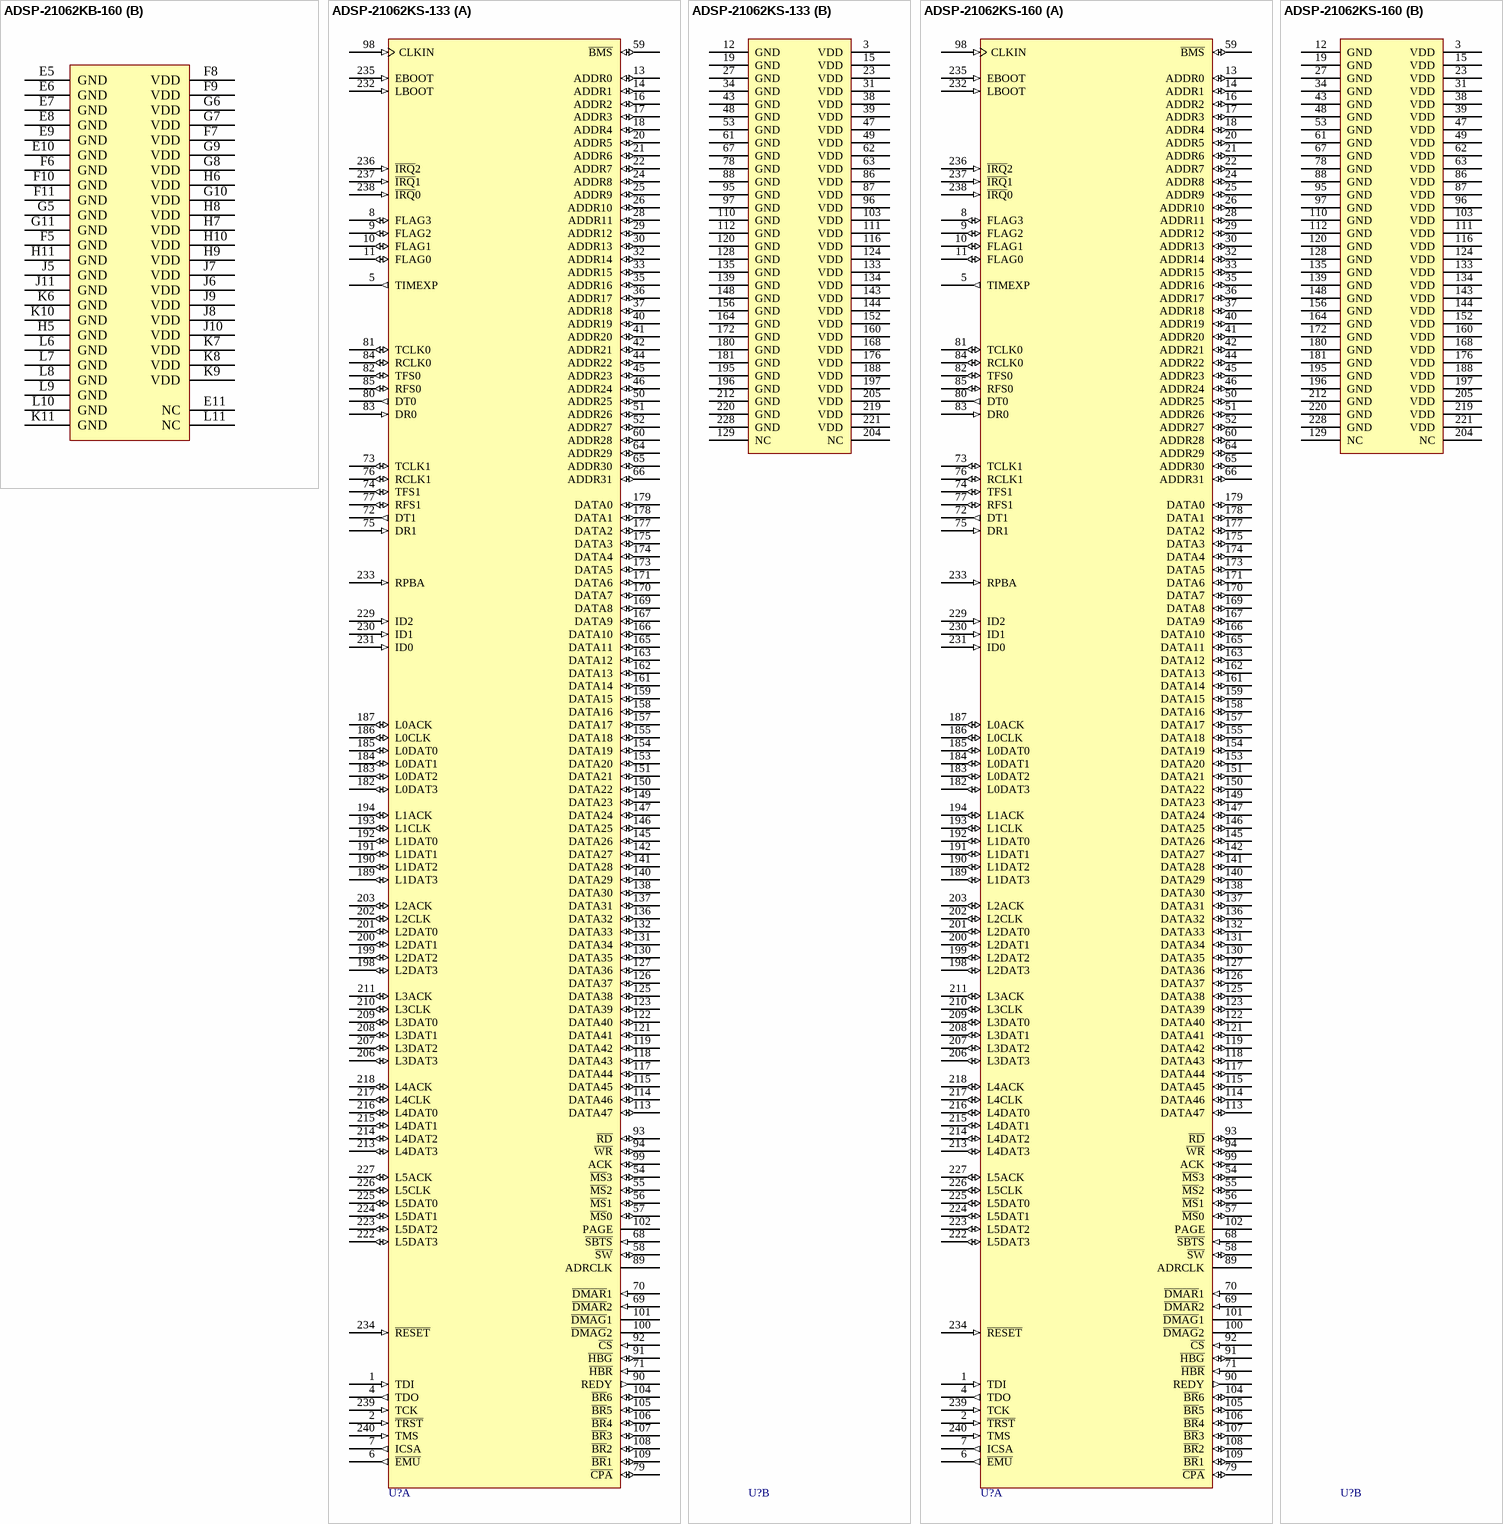
[diagram p34: symbols ADSP-21062KB-160 to ADSP-21062KS-160]